# Altium schematic symbol library Blinkinlabs.SchLib: 259 symbols (part 1 of 3)
Pins are listed as number, name and electrical type; pins without a type are passive.

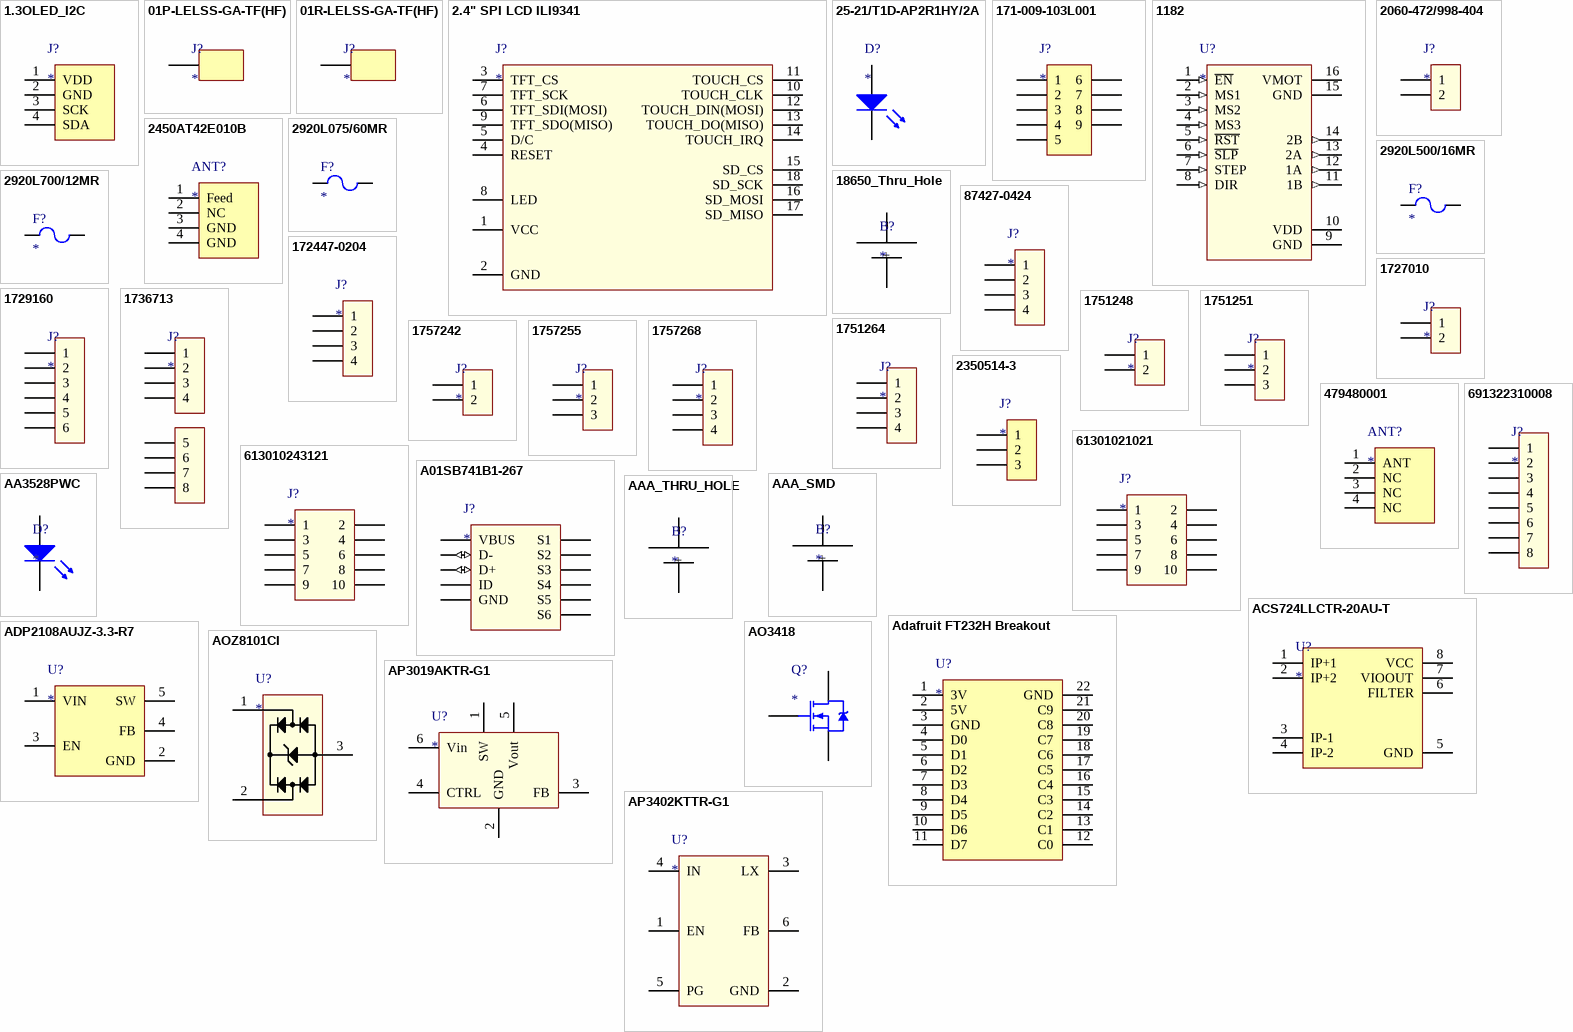
[diagram p0: symbols 1.3OLED_I2C to AP3402KTTR-G1]

## 1.3OLED_I2C
designator J?
Generic single color, 1.3" OLED with I2C connection; Manufacturer: Unknown/Generic; PartNumber: Unknown/Generic
pins: 1 VDD, 2 GND, 3 SCK, 4 SDA

## 01P-LELSS-GA-TF(HF)
designator J?
LEL CONNECTOR For LED Lamp/Board-to-board connectors plug; Manufacturer: JST; PartNumber: 01P-LELSS-GA-TF(HF)
footprint 01P-LELSS-GA-TF(HF) (LEL connector plug)
pins: 1, 2, 3

## 01R-LELSS-GA-TF(HF)
designator J?
LEL CONNECTOR For LED Lamp/Board-to-board connectors, receptacle; Manufacturer: JST; PartNumber: 01P-LELSS-GA-TF(HF)
footprint 01R-LELSS-GA-TF(HF) (LEL connector receptacle)
pins: 1, 2, 3

## 2.4" SPI LCD ILI9341
designator J?
Generic 2.4 inch SPI LCD TFT serial module 240x320 with touch ILI9341; Manufacturer: Unknown/Generic; PartNumber: Unknown/Generic
footprint 2.4" SPI LCD ILI9341 (Generic 2.4 inch SPI LCD TFT serial module 240x320 with touch ILI9341)
pins: 1 VCC, 2 GND, 3 TFT_CS, 4 RESET, 5 D/C, 6 TFT_SDI(MOSI), 7 TFT_SCK, 8 LED, 9 TFT_SDO(MISO), 10 TOUCH_CLK, 11 TOUCH_CS, 12 TOUCH_DIN(MOSI), 13 TOUCH_DO(MISO), 14 TOUCH_IRQ, 15 SD_CS, 16 SD_MOSI, 17 SD_MISO, 18 SD_SCK

## 25-21/T1D-AP2R1HY/2A
designator D?
Reverse mount LED in 1206 package, white; Manufacturer: Everlight; PartNumber: 25-21/T1D-AP2R1HY/2A
footprint 25-21/T1D-AP2R1HY/2A (Reverse mount LED in 1206 package, white)
pins: 1, 2

## 171-009-103L001
designator J?
CONN D-SUB PLUG 9POS PNL MNT, side mount DSUB connector; Manufacturer: NorComp Inc.; PartNumber: 171-009-103L001; Digikey PartNumber: 209ME-ND
footprint 171-009-103L001 (CONN D-SUB PLUG 9POS PNL MNT)
pins: 1, 2, 3, 4, 5, 6, 7, 8, 9

## 1182
designator U?
A4988 Stepper Motor Driver Carrier; Manufacturer: Pololu; PartNumber: 1182
footprint A4988_Carrier (A4988 Stepper Motor Driver Carrier)
pins: 1 ~{EN} (in) "Enable", 2 MS1 (in) "Micostep mode select 1", 3 MS2 (in) "Micostep mode select 2", 4 MS3 (in) "Micostep mode select 3", 5 ~{RST} (in) "Reset", 6 ~{SLP} (in) "Sleep", 7 STEP (in) "Step input", 8 DIR (in) "Direction", 9 GND (power) "Ground", 10 VDD (power) "Logic voltage", 11 1B (out) "Coil B output 1", 12 1A (out) "Coil A output 1", 13 2A (out) "Coil A output 2", 14 2B (out) "Coil B output 2", 15 GND (power) "Ground", 16 VMOT (power) "Motor voltage"

## 2060-472/998-404
designator J?
SMD PCB terminal block; Push-button; 0.75 mm²; Pin spacing 4 mm; 2-pole; / Push-in CAGE CLAMP®; in tape-and-reel packaging; Manufacturer: Wago; PartNumber: 2060-472_998-404; ComponentLink2Description: Datasheet; ComponentLink2URL: Wago_2060-472_998-404.pdf
footprint 2060-472/998-404 (SMD PCB terminal block; Push-button; 0.75 mm²; Pin spacing 4 mm; 2-pole;   Push-in CAGE CLAMP®; in tape-and-reel packaging)
pins: 1, 2, 3, 4

## 2450AT42E010B
designator ANT?
2.4 GHz SMD, Above Metal, Low Profile Mini Chip Antenna; Manufacturer: Johanson Technology Inc.; PartNumber: 2450AT42E010B; Digikey PartNumber: 712-1624-1-ND; Parameter 4: *
footprint 2450AT42E010B
pins: 1 Feed, 2 NC, 3 GND, 4 GND

## 2920L075/60MR
designator F?
Polymeric PTC Resettable Fuse 60V 750 mA Ih Surface Mount 2920 (7351 Metric), Concave; Manufacturer: Littelfuse; PartNumber: 2920L075/60MR; Digkey PartNumber: F5633CT-ND; Mouser PartNumber: 576-2920L075/60MR
footprint littelfuse_2920
pins: 1, 2

## 2920L500/16MR
designator F?
PTC reset fuse, 16V 5A, 2920; Manufacturer: Littelfuse; PartNumber: 2920L500/16MR
footprint littelfuse_2920
pins: 1, 2

## 2920L700/12MR
designator F?
PTC reset fuse, 12V 7A, 2920; Manufacturer: Littelfuse; PartNumber: 2920L700/12MR
footprint littelfuse_2920
pins: 1, 2

## 18650_Thru_Hole
designator B?
18650 battery holder, thru-hole; Manufacturer: Unknown/Generic; PartNumber: Unknown/Generic
footprint 18650_thru_hole
pins: 1       + (power), 2       – (power)

## 87427-0424
designator J?
Molex Mini-Fit Jr.™ Header, 4.20mm Pitch, Right Angle, Nylon, without Mounting Flange, 4 Circuits, Tin (Sn) over Nickel (Ni) Plating, Lead-Free, Tube Packaging; PartNumber: 87427-0424; Manufacturer: Molex
footprint 87427-0424 (Molex Mini-Fit Jr.™ Header, 4.20mm Pitch, Right Angle, Nylon, without Mounting Flange, 4 Circuits, Tin (Sn) over Nickel (Ni) Plating, Lead-Free, Tube Packaging)
pins: 1, 2, 3, 4

## 172447-0204
designator J?
Mini-Fit Jr.™ Header, Dual Row, Vertical, without Snap-in Plastic Peg PCB Lock, 4 Circuits, PA Polyamide Nylon 6/6 94V-2, Tin (Sn) Plating, Glow Wire Capable; Manufacturer: Molex; PartNumber: 172447-0204
footprint 172447-0204 (Molex Mini-Fit Jr.™ Vertical Header, 4.20mm Pitch, Dual Row, 4 Circuits, without Snap-in Plastic Peg PCB Lock, Tin, Natural)
pins: 1, 2, 3, 4

## 1727010
designator J?
PCB terminal block, nominal current: 13.5 A, pitch: 3.81 mm, number of positions: 2, connection method: Screw connection with tension sleeve, mounting: Wave soldering, conductor/PCB connection direction: 0 °, color: green; Manufacturer: Phoenix Contact; PartNumber: 1727010; ComponentLink2Description: Datasheet; ComponentLink2URL: 1757268_06_en_00.pdf
footprint 1727010 (PCB terminal block - MKDS 1/ 2-3,81 - 1727010)
pins: 1, 2

## 1729160
designator J?
TERM BLK 6P SIDE ENT 5.08MM PCB; PartNumber: 1729160; Manufacturer: Phoenix Contact; Digikey PartNumber: 277-1251-ND
footprint 1729160 (TERM BLK 6P SIDE ENT 5.08MM PCB)
pins: 1, 2, 3, 4, 5, 6

## 1736713
designator J?
TERM BLOCK HDR 8POS 90DEG 5.08MM; Manufacturer: Phoenix Contact; PartNumber: 1736713; ComponentLink2Description: Datasheet; ComponentLink2URL: 1757268_06_en_00.pdf
footprint 1736713 (TERM BLOCK HDR 8POS 90DEG 5.08MM)
pins: 1, 2, 3, 4, 5, 6, 7, 8

## 1751248
designator J?
TERM BLK 2POS SIDE ENT 3.5MM PCB; Manufacturer: Phoenix Contact; PartNumber: 1751248
footprint 1751248 (TERM BLK 2POS SIDE ENT 3.5MM PCB)
pins: 1, 2

## 1751251
designator J?
TERM BLK 3POS SIDE ENT 3.5MM PCB; Manufacturer: Phoenix Contact; PartNumber: 1751251
footprint 1751251 (TERM BLK 3POS SIDE ENT 3.5MM PCB)
pins: 1, 2, 3

## 1751264
designator J?
TERM BLK 4POS SIDE ENT 3.5MM PCB; Manufacturer: Phoenix Contact; PartNumber: 1751264
footprint 1751264 (PCB terminal block - MKDS 1/ 4-3,5 - 1751264)
pins: 1, 2, 3, 4

## 1757242
designator J?
TERM BLOCK HDR 2POS 90DEG 5.08MM; Manufacturer: Phoenix Contact; PartNumber: 1757268; ComponentLink2Description: Datasheet; ComponentLink2URL: 1757268_06_en_00.pdf
footprint 1757242 (TERM BLOCK HDR 2POS 90DEG 5.08MM)
pins: 1, 2

## 1757255
designator J?
TERM BLOCK HDR 3POS 90DEG 5.08MM; Manufacturer: Phoenix Contact; PartNumber: 1757268; ComponentLink2Description: Datasheet; ComponentLink2URL: 1757268_06_en_00.pdf
footprint 1757255 (TERM BLOCK HDR 3POS 90DEG 5.08MM)
pins: 1, 2, 3

## 1757268
designator J?
TERM BLOCK HDR 4POS 90DEG 5.08MM; Manufacturer: Phoenix Contact; PartNumber: 1757268; ComponentLink2Description: Datasheet; ComponentLink2URL: 1757268_06_en_00.pdf
footprint 1757268 (TERM BLOCK HDR 4POS 90DEG 5.08MM)
pins: 1, 2, 3, 4

## 2350514-3
designator J?
3 Position Terminal Block Header, Male Pins, Shrouded (4 Side) 0.138" (3.50mm) 90°, Right Angle  Through Hole; Manufacturer: TE Connectivity AMP Connectors; PartNumber: 2350514-3; DigiKey PartNumber: A145379-ND
footprint 2350514-3 (3POS TB HDR 90 DEG PITCH 3.5 & T)
pins: 1, 2, 3

## 479480001
designator ANT?
Antennas 2.4G SMD ANTENNA ON GROUND 50 OHMS; Manufacturer: Molex; PartNumber: 479480001
footprint 479480001 (Antennas 2.4G SMD ANTENNA ON GROUND 50 OHMS)
pins: 1 ANT, 2 NC, 3 NC, 4 NC

## 61301021021
designator J?
10 Positions Header Connector 0.100" (2.54mm) Through Hole, Right Angle Gold; Manufacturer: Wurth Electronics Inc; PartNumber: 61301021021; ComponentLink2Description: Datasheet; ComponentLink2URL: 6130xx21021.pdf
footprint 61301021021 (2.54MM ANGLED DUAL PIN HEADER)
pins: 1, 2, 3, 4, 5, 6, 7, 8, 9, 10

## 613010243121
designator J?
10 Position Header Connector 0.100" (2.54mm) Through Hole, Right Angle Gold; Manufacturer: Wurth Electronics Inc; PartNumber: 613010243121; ComponentLink2Description: Datasheet; ComponentLink2URL: 6130xx243121.pdf
footprint 613010243121 (2.54MM ANGLED DUAL SOCKET HEADER)
pins: 1, 2, 3, 4, 5, 6, 7, 8, 9, 10

## 691322310008
designator J?
8 Position Terminal Block Header, Male Pins, Shrouded (4 Side) 0.150" (3.81mm) 90°, Right Angle Through Hole; Manufacturer: Wurth Electronics Inc; PartNumber: 691322310008
footprint 691322310008 (8 Position Terminal Block Header, Male Pins, Shrouded (4 Side) 0.150" (3.81mm) 90°, Right Angle Through Hole)
pins: 1, 2, 3, 4, 5, 6, 7, 8

## A01SB741B1-267
designator J?
Micro USB B type 四脚全插牛角; PartNumber: Unknown/Generic; Manufacturer: Unknown/Generic
footprint A01SB741B1-267 (micro usb B type)
pins: D+ (io), D- (io), GND (power), ID, S1, S2, S3, S4, S5, S6, VBUS (power)

## AA3528PWC
designator D?
3.5x2.8mm SURFACE MOUNT LED LAMP, WHITE (InGaN); Manufacturer: Kingbright; PartNumber: AA3528PWC
footprint AA3528PWC (3.5x2.8mm SURFACE MOUNT LED LAMP)
footprint AA3528PWC -HD (3.5x2.8mm SURFACE MOUNT LED LAMP)
pins: 1, 2

## AAA_SMD
designator B?
AAA battery holder, surface mount.; Manufacturer: Unknown/Generic; PartNumber: Unknown/Generic
footprint AAA_SMD
pins: 1       + (power), 2       – (power)

## AAA_THRU_HOLE
designator B?
AAA battery holder, thru hole; Manufacturer: Unknown/Generic; PartNumber: Unknown/Generic
footprint AAA_SMD_THRU_HOLE
pins: 1       + (power), 2       – (power)

## ACS724LLCTR-20AU-T
designator U?
Automotive-Grade, Galvanically Isolated Current Sensor IC with Common-Mode Field Rejection in a Small-Footprint SOIC8 Package; Manufacturer: Allegro; PartNumber: ACS724LLCTR-20AU-T; Digikey PartNumber: 620-1721-1-ND
footprint SOP127P600X175-8N-4 (SOP, 8-Leads, Body 4.90x3.90mm, Pitch 1.27mm, IPC Medium Density)
pins: 1 IP+1, 2 IP+2, 3 IP-1, 4 IP-2, 5 GND, 6 FILTER, 7 VIOOUT, 8 VCC

## Adafruit FT232H Breakout
designator U?
Adafruit FT232H Breakout - General Purpose USB to GPIO, SPI, I2C - USB C & Stemma QT; PartNumber: 2264; Manufacturer: Adafruit
pins: 1 3V, 2 5V, 3 GND, 4 D0, 5 D1, 6 D2, 7 D3, 8 D4, 9 D5, 10 D6, 11 D7, 12 C0, 13 C1, 14 C2, 15 C3, 16 C4, 17 C5, 18 C6, 19 C7, 20 C8, 21 C9, 22 GND

## ADP2108AUJZ-3.3-R7
designator U?
Compact, 600 mA, 3 MHz, Step-Down DC-to-DC Converter, 3.3V; PartNumber: ADP2108AUJZ-3.3-R7; Manufacturer: *; DigiKey PartNumber: ADP2108AUJZ-3.3-R7CT-ND; LCSC PartNumber: C143875
footprint SOT95P280X100-5N (SOT23, 5-Leads, Body 2.90x2.80mm, Pitch 0.95mm, IPC Medium Density)
pins: 1 VIN, 2 GND, 3 EN, 4 FB, 5 SW

## AO3418
designator Q?
30V N-Channel MOSFET; Manufacturer: Alpha & Omega; PartNumber: AO3418; ComponentLink2Description: Datasheet; ComponentLink2URL: ao3418.pdf
footprint SOT95P280X125-3N (SOT23, 3-Leads, Body 2.95x2.80mm, Pitch 0.95mm, IPC Medium Density)
pins: 1 GATE, 2 SOURCE, 3 DRAIN

## AOZ8101CI
designator U?
Ultra-Low Capacitance TVS Diode Array; Manufacturer: Alpha & Omega; PartNumber: AOZ8101; ComponentLink2Description: Datasheet; ComponentLink2URL: AOZ8101.pdf
footprint SOT95P280X125-3N (SOT23, 3-Leads, Body 2.95x2.80mm, Pitch 0.95mm, IPC Medium Density)
pins: 1, 2, 3

## AP3019AKTR-G1
designator U?
WHITE  LED  STEP-UP  CONVERTER; Manufacturer: BCD  Semiconductor  Manufacturing  Limited; PartNumber: AP3019AKTR-G1
footprint SOT95P280X145-6N-2 (Footprint not found)
pins: 1 SW, 2 GND, 3 FB, 4 CTRL, 5 Vout, 6 Vin

## AP3402KTTR-G1
designator U?
1.0MHZ, 2A STEP-DOWN DC-DC BUCK CONVERTER; Manufacturer: Diodes; PartNumber: AP3402KTTR-G1; LCSC PartNumber: C155517
footprint SOT95P280X100-6N (SOT23, 6-Leads, Body 2.90x2.80mm, Pitch 0.95mm, IPC Medium Density)
pins: 1 EN, 2 GND, 3 LX, 4 IN, 5 PG, 6 FB

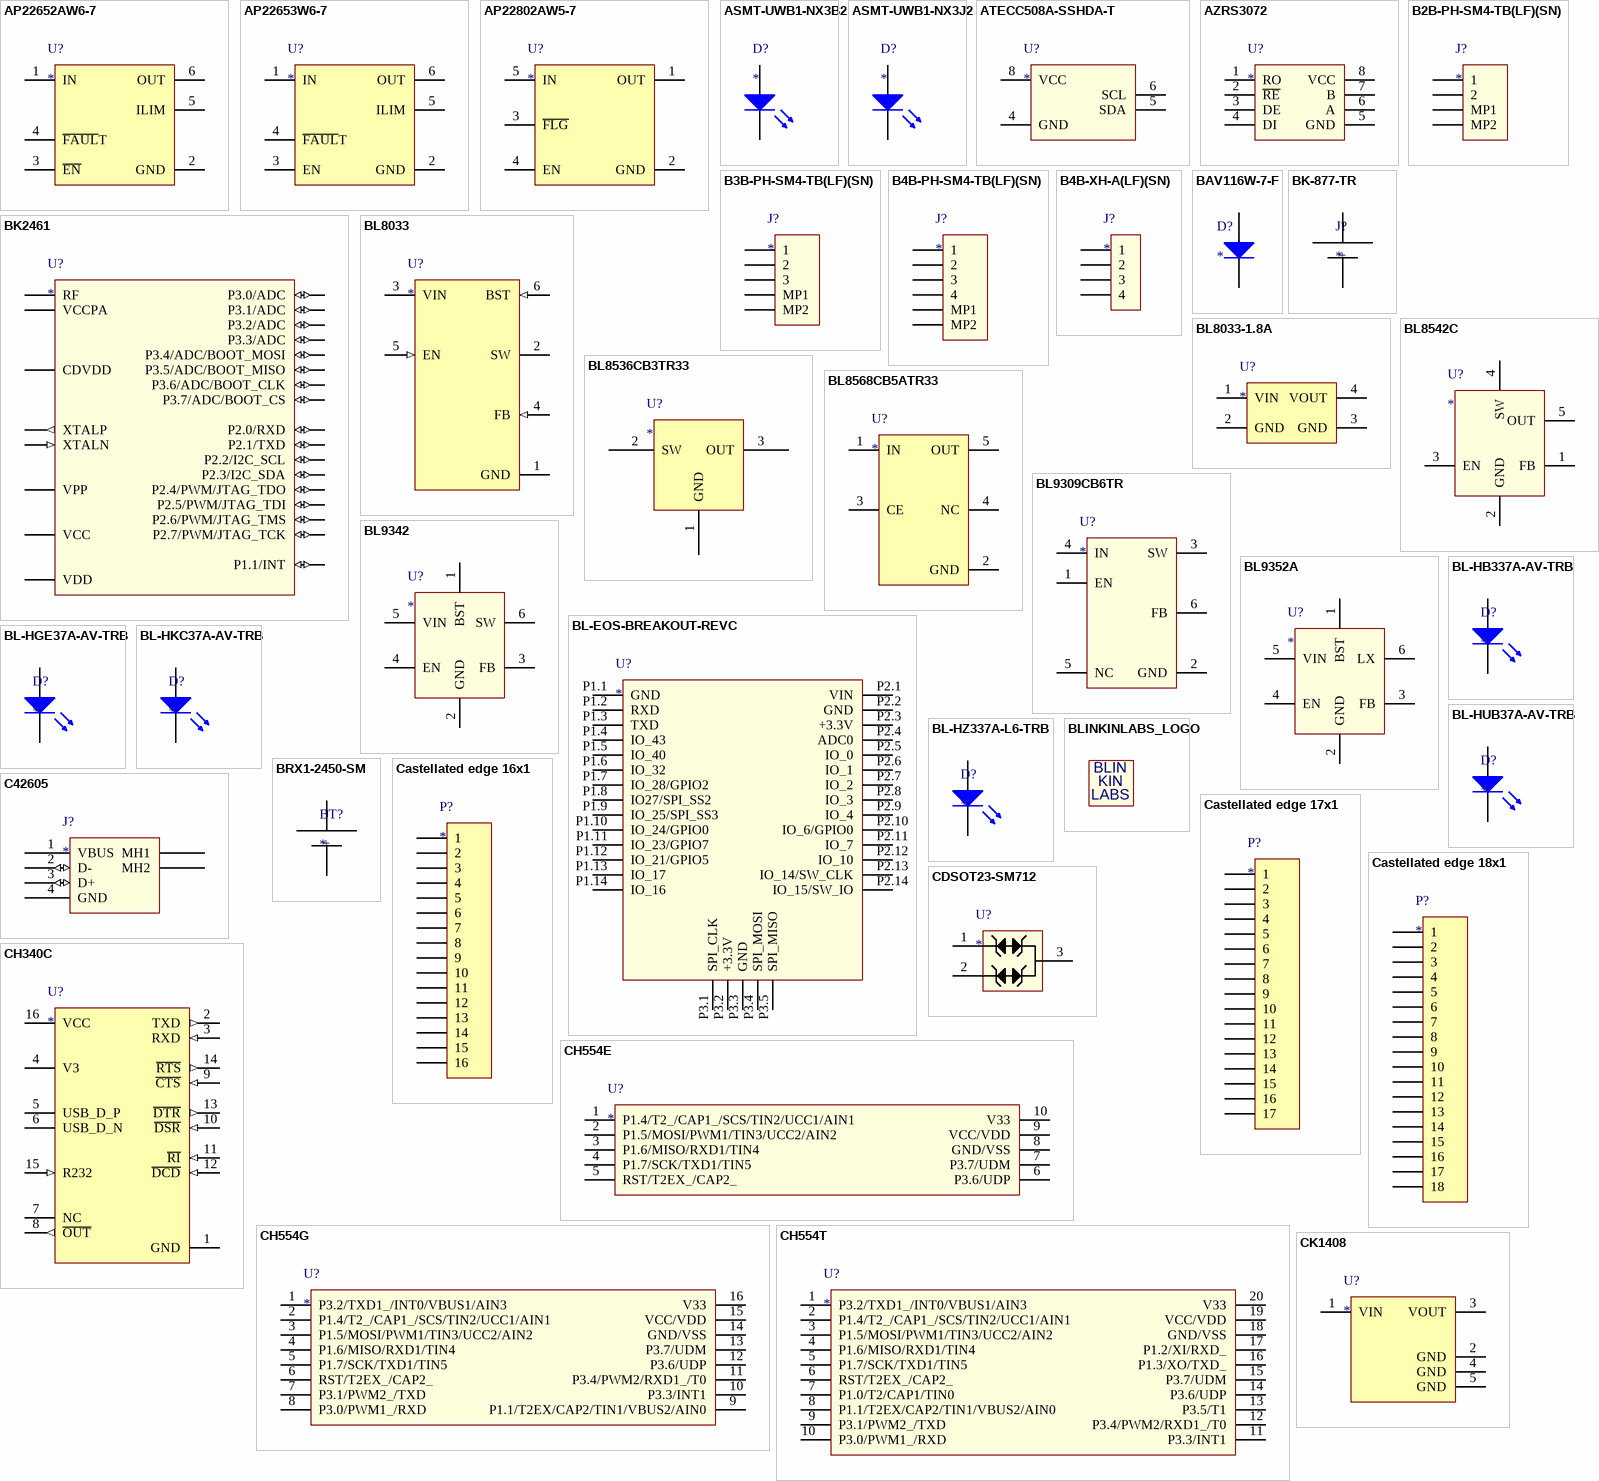
[diagram p1: symbols AP22652AW6-7 to CK1408]

## AP22652AW6-7
designator U?
LOAD SWITCH,SOT26,T&R,3K; Manufacturer: Diodes Incorporated; PartNumber: AP22652AW6-7; Digikey PartNumber: 31-AP22652AW6-7TR-ND
footprint SOT95P280X145-6N-5 (SOT23, 6-Leads, Body 2.90x2.80mm, Pitch 0.95mm, IPC Medium Density)
pins: 1 IN, 2 GND, 3 ~{EN}, 4 ~{FAUL}T, 5 ILIM, 6 OUT

## AP22653W6-7
designator U?
LOAD SWITCH,SOT26,T&R,3K; Manufacturer: Diodes Incorporated; PartNumber: AP22653W6-7; Digikey PartNumber: 31-AP22653W6-7TR-ND
footprint SOT95P280X145-6N-5 (SOT23, 6-Leads, Body 2.90x2.80mm, Pitch 0.95mm, IPC Medium Density)
pins: 1 IN, 2 GND, 3 EN, 4 ~{FAUL}T, 5 ILIM, 6 OUT

## AP22802AW5-7
designator U?
IC PWR SWITCH P-CHAN 1:1 SOT25; Manufacturer: Diodes Incorporated; PartNumber: AP22802AW5-7; Digikey PartNumber: AP22802AW5-7DITR-ND
pins: 1 OUT, 2 GND, 3 ~{FLG}, 4 EN, 5 IN

## ASMT-UWB1-NX3B2
designator D?
Standard LEDs - SMD White, 6500K 2300mcd, 20mA; Manufacturer: Broadcom/Avago; PartNumber: ASMT-UWB1-NX3B2; Mouser PartNumber: 630-ASMT-UWB1-NX3B2
footprint ASMT-UWB1-Nxxxx
pins: 1, 2

## ASMT-UWB1-NX3J2
designator D?
Standard LEDs - SMD White, 2700K 2300mcd, 20mA; Manufacturer: Broadcom/Avago; PartNumber: ASMT-UWB1-NX3J2; Mouser PartNumber: 630-ASMT-UWB1-NX3J2
footprint ASMT-UWB1-Nxxxx
pins: 1, 2

## ATECC508A-SSHDA-T
designator U?
Cryptographic Co-processor with Secure Hardware-Based Key Storage; PartNumber: ATECC508A-SSHDA-T; Manufacturer: Microchip
footprint SOIC127P600X175-8N (SOIC, 8-Leads, Body 4.90x3.90mm, Pitch 1.27mm, IPC Medium Density)
pins: 4 GND, 5 SDA, 6 SCL, 8 VCC

## AZRS3072
designator U?
ESD-Protected, Slew-Rate-Limited, True Fail-Safe 3.3V RS485 Transceiver IC; Manufacturer: Amazing Microelectronic Corp.; PartNumber: AZRS3072
footprint SOIC127P600X175-8N (SOIC, 8-Leads, Body 4.90x3.90mm, Pitch 1.27mm, IPC Medium Density)
pins: 1 RO, 2 ~{RE}, 3 DE, 4 DI, 5 GND, 6 A, 7 B, 8 VCC

## B2B-PH-SM4-TB(LF)(SN)
designator J?
CONN HEADER SMD R/A 2POS 2MM; Manufacturer: JST; PartNumber: B2B-PH-SM4-TB(LF)(SN)
footprint B2B-PH-SM4-TB(LF)(SN) (CONN HEADER SMD 2POS 2MM)
pins: 1, 2, MP1, MP2

## B3B-PH-SM4-TB(LF)(SN)
designator J?
CONN HEADER SMD R/A 3POS 2MM; Manufacturer: JST; PartNumber: B3B-PH-SM4-TB(LF)(SN)
footprint B3B-PH-SM4-TB(LF)(SN) (CONN HEADER SMD 3POS 2MM)
pins: 1, 2, 3, MP1, MP2

## B4B-PH-SM4-TB(LF)(SN)
designator J?
CONN HEADER SMD R/A 3POS 2MM; Manufacturer: JST; PartNumber: B4B-PH-SM4-TB(LF)(SN)
footprint B4B-PH-SM4-TB(LF)(SN) (CONN HEADER SMD 4POS 2MM)
pins: 1, 2, 3, 4, MP1, MP2

## B4B-XH-A(LF)(SN)
designator J?
CONN HEADER XH TOP 4POS 2.5MM; Manufacturer: JST Manufacturing; PartNumber: B4B-XH-A(LF)(SN)
footprint B4B-XH-A(LF)(SN) (CONN HEADER XH TOP 4POS 2.5MM)
pins: 1, 2, 3, 4

## BAV116W-7-F
designator D?
Surface Mount Low Leakage Diode, Vr=130V, If=215mA, Vf=1.25V @ 150mA, Ir=5nA@25C; Manufacturer: Diodes Incorporated; PartNumber: BAV116W-7-F
footprint SOD123 (Hand drawn)
pins: 1 K, 2 A

## BK2461
designator U?
FLIP51 MCU+RF; Manufacturer: Beken; PartNumber: BK2461
footprint QFN50P400X400X90_HS-25N (QFN, 24-Leads, Body 4.00x4.00mm, Pitch 0.50mm, Thermal Pad 2.70x2.70mm, IPC Medium Density)
pins: 1 VCC (power) "3v supply", 2 RF "Antenna input/output", 3 VCCPA (power) "PA power output, connected with decoupling CAP", 4 P3.7/ADC/BOOT_CS (io) "General I/O，ADC input", 5 P3.6/ADC/BOOT_CLK (io) "General I/O，ADC input", 6 P3.5/ADC/BOOT_MISO (io) "General I/O，ADC input", 7 VPP (power) "Mode select and 6.5V power supply for OTP burning, or P12 output(PWM)", 8 P3.4/ADC/BOOT_MOSI (io) "General I/O，ADC input", 9 P3.3/ADC (io) "General I/O，ADC input", 10 P3.2/ADC (io) "General I/O，ADC input", 11 P1.1/INT (io) "General I/O， external interrupt", 12 P3.1/ADC (io) "General I/O，ADC input", 13 P2.0/RXD (io) "General I/O，or input for UART", 14 P3.0/ADC (io) "General I/O，ADC input", 15 P2.1/TXD (io) "General I/O，or output for UART", 16 P2.2/I2C_SCL (io) "General I/O，or I2C SCL", 17 P2.3/I2C_SDA (io) "General I/O，or I2C SDA", 18 P2.4/PWM/JTAG_TDO (io) "General I/O，or PWM, or JTAG", 19 P2.5/PWM/JTAG_TDI (io) "General I/O，or PWM, or JTAG", 20 P2.7/PWM/JTAG_TCK (io) "General I/O，or PWM, or JTAG", 21 P2.6/PWM/JTAG_TMS (io) "General I/O，or PWM, or JTAG", 22 CDVDD "power output, connected with decoupling CAP", 23 XTALP (out) "Oscillator output", 24 XTALN (in) "Oscillator input", 25 VDD (power)

## BK-877-TR
designator J?
Battery Retainer Coin, 24.5mm 1 Cell SMD (SMT) Tab; Manufacturer: MPD; PartNumber: BK-877-TR; Digikey PartNumber: BK-877-TR
footprint BKK-877 (BATT RETAIN COIN 24.5MM 1CEL SMD)
pins: 1 + (power), 2       + (power), 3       – (power)

## BL8033
designator U?
16V 3A SOT-23-6 DC-DC Converters RoHS; PartNumber: BL8033CB6TR; Manufacturer: Belling; LCSC PartNumber: C160717
footprint SOT95P290X130-6N (SOT23, 6-Leads, Body 2.90x2.90mm, Pitch 0.95mm, IPC Medium Density)
pins: 1 GND (power), 2 SW (power), 3 VIN (power), 4 FB (in), 5 EN (in), 6 BST (in)

## BL8033-1.8A
designator U?
DC-DC converter module; Manufacturer: Blinkinlabs; PartNumber: BL8033-1.8A
footprint BL8033-1.8A
pins: 1 VIN (power), 2 GND, 3 GND, 4 VOUT (power)

## BL8536CB3TR33
designator U?
0.9V Startup, 1MHz, 300mA Iout, Low Iq, Synchronous Boost Converte; Manufacturer: Shanghai Belling; PartNumber: BL8536; LCSC PartNumber: C97793
footprint SOT95P280X140-3N (SOT23, 3-Leads, Body 2.90x2.80mm, Pitch 0.95mm, IPC Medium Density)
pins: 1 GND, 2 SW, 3 OUT

## BL8542C
designator U?
0.85V startup, 1MHz, 300mA Iout,  Synchronous Boost Converter (adjustable output); Manufacturer: Shanghai Belling; PartNumber: BL8542CCB5TR; LCSC PartNumber: C313522
footprint SOT95P280X130-5N (SOT23, 5-Leads, Body 2.90x2.80mm, Pitch 0.95mm, IPC Medium Density)
pins: 1 FB, 2 GND, 3 EN, 4 SW, 5 OUT

## BL8568CB5ATR33
designator U?
500mA High PSRR, Linear Regulator, w. Output Discharge; Manufacturer: Shanghai Belling; PartNumber: BL8568CB5ATR33; LCSC PartNumber: C243122
footprint SOT95P280X130-5N-2 (SOT23, 5-Leads, Body 2.90x2.80mm, Pitch 0.95mm, IPC Medium Density)
pins: 1 IN, 2 GND, 3 CE, 4 NC, 5 OUT

## BL9309CB6TR
designator U?
5.5V, 2.0A, 1.3MHz Synchronous Buck Converter; Manufacturer: Shanghai Belling; PartNumber: BL9309CB6TR; LCSC PartNumber: C691899
footprint SOT95P280X125-6N-2 (SOT23, 6-Leads, Body 2.92x2.80mm, Pitch 0.95mm, IPC Medium Density)
pins: 1 EN, 2 GND, 3 SW, 4 IN, 5 NC, 6 FB

## BL9342
designator U?
40V 600mA SOT-23-6 DC-DC Converters; Manufacturer: Shanghai Belling; PartNumber: BL9342; LCSC PartNumber: C93176
footprint SOT95P280X125-6N (SOT23, 6-Leads, Body 2.92x2.80mm, Pitch 0.95mm, IPC Medium Density)
pins: 1 BST, 2 GND, 3 FB, 4 EN, 5 VIN, 6 SW

## BL9352A
designator U?
45V, 1.6MHz, 600mA Step-Down Converter; Manufacturer: Shanghai Belling; PartNumber: BL9352A; ComponentLink2Description: Datasheet; ComponentLink2URL: BL9352A_V1.1_en.pdf; LCSC PartNumber: C193985
footprint SOT95P280X125-6N (SOT23, 6-Leads, Body 2.92x2.80mm, Pitch 0.95mm, IPC Medium Density)
pins: 1 BST "Bootstrap pin for top Switch. In Typ. application, a 0.1uF or larger capacitor should be connected between this pin and the LX pin to supply current to the top Switch gate and top Switch driver.", 2 GND "Analog Ground", 3 FB "Output feedback pin. In Typ. application, FB senses the output voltage and is regulated by the control loop to 800mV. Connect a resistive divider at FB.", 4 EN "Drive EN pin high to turn on the regulator and low to turn off the regulator", 5 VIN "Input voltage pin, In Typ. application, VIN supplies power to the IC. Connect a 4.5V to 45V supply to VIN and bypass VIN to GND with a suitably large capacitor to eliminate noise on the input to the IC.", 6 LX "LX is the Switching node that supplies power to the output Connect the output LC filter from LX to the output load."

## BL-EOS-BREAKOUT-REVC
designator U?
Manufacturer: Blinkinlabs; PartNumber: QL-EOS-S3-Breakout
footprint BL-EOS-BREAKOUT-REVC
pins: P1.1 GND, P1.2 RXD, P1.3 TXD, P1.4 IO_43, P1.5 IO_40, P1.6 IO_32, P1.7 IO_28/GPIO2, P1.8 IO27/SPI_SS2, P1.9 IO_25/SPI_SS3, P1.10 IO_24/GPIO0, P1.11 IO_23/GPIO7, P1.12 IO_21/GPIO5, P1.13 IO_17, P1.14 IO_16, P2.1 VIN, P2.2 GND, P2.3 +3.3V, P2.4 ADC0, P2.5 IO_0, P2.6 IO_1, P2.7 IO_2, P2.8 IO_3, P2.9 IO_4, P2.10 IO_6/GPIO0, P2.11 IO_7, P2.12 IO_10, P2.13 IO_14/SW_CLK, P2.14 IO_15/SW_IO, P3.1 SPI_CLK, P3.2 +3.3V, P3.3 GND, P3.4 SPI_MOSI, P3.5 SPI_MISO

## BL-HB337A-AV-TRB
designator D?
LED, 0402, Blue, 20mcd@5mA, 465~470nm; Manufacturer: BrtLed(佰鸿); PartNumber: BL-HB337A-AV-TRB; LCSC PartNumber: C165977
footprint BL-Hxx37A-AV-TRB (0402 LED, generic)
pins: 1, 2

## BL-HGE37A-AV-TRB
designator D?
LED, 0402, Super Yellow Green, 35mcd@20mA, 566~576nm; Manufacturer: BrtLed(佰鸿); PartNumber: BL-HGE37A-AV-TRB; LCSC PartNumber: C165979
footprint BL-Hxx37A-AV-TRB (0402 LED, generic)
pins: 1, 2

## BL-HKC37A-AV-TRB
designator D?
LED, 0402, Yellow, 120mcd@20mA, 584~594nm; Manufacturer: BrtLed(佰鸿); PartNumber: BL-HKC37A-AV-TRB; LCSC PartNumber: C165978
footprint BL-Hxx37A-AV-TRB (0402 LED, generic)
pins: 1, 2

## BL-HUB37A-AV-TRB
designator D?
LED, 0402, Super Red, 50mcd@20mA, 627~637nm; Manufacturer: BrtLed(佰鸿); PartNumber: BL-HUB37A-AV-TRB; LCSC PartNumber: C165980
footprint BL-Hxx37A-AV-TRB (0402 LED, generic)
pins: 1, 2

## BL-HZ337A-L6-TRB
designator D?
LED, 0402, White, 80mcd@5mA; Manufacturer: BrtLed(佰鸿); PartNumber: BL-HZ337A-L6-TRB; LCSC PartNumber: C189305
footprint BL-Hxx37A-AV-TRB (0402 LED, generic)
pins: 1, 2

## BLINKINLABS_LOGO
designator L?  (value not drawn)  (no BOM)
Square logo
footprint BLINKINLABS_LOGO (Square blinkinlabs logo)
footprint BLINKINLABS_LOGO_SMALL (Small blinkinlabs logo)
text: BLIN; KIN; LABS

## BRX1-2450-SM
designator BT?
BATTERY HOLDER COIN CELL; Manufacturer: Memory Protection Devices, Inc; PartNumber: BRX1-2450-SM
footprint BRX1-2450-SM (CR2450 Surface Mount Battery Retainer)
pins: N       – (power), V1       + (power), V2 + (power), V3 + (power)

## C42605
designator J?
USB A connector, SMD, no tabs; Manufacturer: LC (立创); PartNumber: C42605
footprint C42605 (USB-A SMD)
pins: 1 VBUS (power) "USB 5V", 2 D- (io) "USB Data, negative", 3 D+ (io) "USB Data, positive", 4 GND (power) "Ground", 5 MH2 "Mounting Hole", 6 MH1 "Mounting Hole"

## Castellated edge 16x1
designator P?
2.54mm Header with castellated edges, 1x16 pins
footprint 1x16 castellated
pins: 1, 1b 1, 2, 2b 2, 3, 3b 3, 4, 4b 4, 5, 5b 5, 6, 6b 6, 7, 7b 7, 8, 8b 8, 9, 9b 9, 10, 10b 10, 11, 11b 11, 12, 12b 12, 13, 13b 13, 14, 14b 14, 15, 15b 15, 16, 16b 16

## Castellated edge 17x1
designator P?
2.54mm Header with castellated edges, 1x17 pins
footprint 1x17 castellated
pins: 1, 1b 1, 2, 2b 2, 3, 3b 3, 4, 4b 4, 5, 5b 5, 6, 6b 6, 7, 7b 7, 8, 8b 8, 9, 9b 9, 10, 10b 10, 11, 11b 11, 12, 12b 12, 13, 13b 13, 14, 14b 14, 15, 15b 15, 16, 16b 16, 17, 17b 17

## Castellated edge 18x1
designator P?
2.54mm Header with castellated edges, 1x18 pins
footprint 1x18 castellated
pins: 1, 1b 1, 2, 2b 2, 3, 3b 3, 4, 4b 4, 5, 5b 5, 6, 6b 6, 7, 7b 7, 8, 8b 8, 9, 9b 9, 10, 10b 10, 11, 11b 11, 12, 12b 12, 13, 13b 13, 14, 14b 14, 15, 15b 15, 16, 16b 16, 17, 17b 17, 18, 18b 18

## CDSOT23-SM712
designator U?
600 WATT TVS ARRAY - ASYMMETRICAL DATA LINE PROTECTOR; Manufacturer: Bourns; PartNumber: CDSOT23-SM712; ComponentLink2Description: Datasheet; ComponentLink2URL: Bourns CDSOT23-SM712.pdf
footprint SOT95P230X117-3N (SOT23, 3-Leads, Body 2.90x2.30mm, Pitch 0.95mm, IPC Medium Density)
pins: 1, 2, 3

## CH340C
designator U?
USB to serial chip; Manufacturer: WCH; PartNumber: CH340C; LCSC PartNumber: C84681
footprint SOP127P600X175-16N-2 (SOP, 16-Leads, Body 9.90x3.90mm, Pitch 1.27mm, IPC Medium Density)
pins: 1 GND (power), 2 TXD (out), 3 RXD (in), 4 V3 (power), 5 USB_D_P, 6 USB_D_N, 7 NC, 8 ~{OUT} (out), 9 ~{CTS} (in), 10 ~{DSR} (in), 11 ~{RI} (in), 12 ~{DCD} (in), 13 ~{DTR} (out), 14 ~{RTS} (out), 15 R232 (in), 16 VCC (power)

## CH554E
designator U?
8-bit enhanced USB microcontroller; Manufacturer: WCH; PartNumber: CH554E
footprint LC-MSOP-10 (Footprint from SZLCSC example)
pins: 1 P1.4/T2_/CAP1_/SCS/TIN2/UCC1/AIN1, 2 P1.5/MOSI/PWM1/TIN3/UCC2/AIN2, 3 P1.6/MISO/RXD1/TIN4, 4 P1.7/SCK/TXD1/TIN5, 5 RST/T2EX_/CAP2_, 6 P3.6/UDP, 7 P3.7/UDM, 8 GND/VSS (power), 9 VCC/VDD (power), 10 V33 (power)

## CH554G
designator U?
8-bit enhanced USB microcontroller; Manufacturer: WCH; PartNumber: CH554G
footprint SOP127P600X175-16N (SOP, 16-Leads, Body 9.90x3.90mm, Pitch 1.27mm, IPC Medium Density)
pins: 1 P3.2/TXD1_/INT0/VBUS1/AIN3, 2 P1.4/T2_/CAP1_/SCS/TIN2/UCC1/AIN1, 3 P1.5/MOSI/PWM1/TIN3/UCC2/AIN2, 4 P1.6/MISO/RXD1/TIN4, 5 P1.7/SCK/TXD1/TIN5, 6 RST/T2EX_/CAP2_, 7 P3.1/PWM2_/TXD, 8 P3.0/PWM1_/RXD, 9 P1.1/T2EX/CAP2/TIN1/VBUS2/AIN0, 10 P3.3/INT1, 11 P3.4/PWM2/RXD1_/T0, 12 P3.6/UDP, 13 P3.7/UDM, 14 GND/VSS (power), 15 VCC/VDD (power), 16 V33 (power)

## CH554T
designator U?
8-bit enhanced USB microcontroller; Manufacturer: WCH; PartNumber: CH554T
footprint TSOP65P660X110-20N (TSOP, 20-Leads, Body 6.50x4.40mm, Pitch 0.65mm, IPC Medium Density)
pins: 1 P3.2/TXD1_/INT0/VBUS1/AIN3, 2 P1.4/T2_/CAP1_/SCS/TIN2/UCC1/AIN1, 3 P1.5/MOSI/PWM1/TIN3/UCC2/AIN2, 4 P1.6/MISO/RXD1/TIN4, 5 P1.7/SCK/TXD1/TIN5, 6 RST/T2EX_/CAP2_, 7 P1.0/T2/CAP1/TIN0, 8 P1.1/T2EX/CAP2/TIN1/VBUS2/AIN0, 9 P3.1/PWM2_/TXD, 10 P3.0/PWM1_/RXD, 11 P3.3/INT1, 12 P3.4/PWM2/RXD1_/T0, 13 P3.5/T1, 14 P3.6/UDP, 15 P3.7/UDM, 16 P1.3/XO/TXD_, 17 P1.2/XI/RXD_, 18 GND/VSS (power), 19 VCC/VDD (power), 20 V33 (power)

## CK1408
designator U?
Mini high-power DC step-down module, 5V 8A; PartNumber: CK1408; Manufacturer: Wenzhou Chenkai Electronic Technology
footprint CK1408 (5V buck regulator)
pins: 1 VIN (power), 2 GND (power), 3 VOUT (power), 4 GND (power), 5 GND (power)

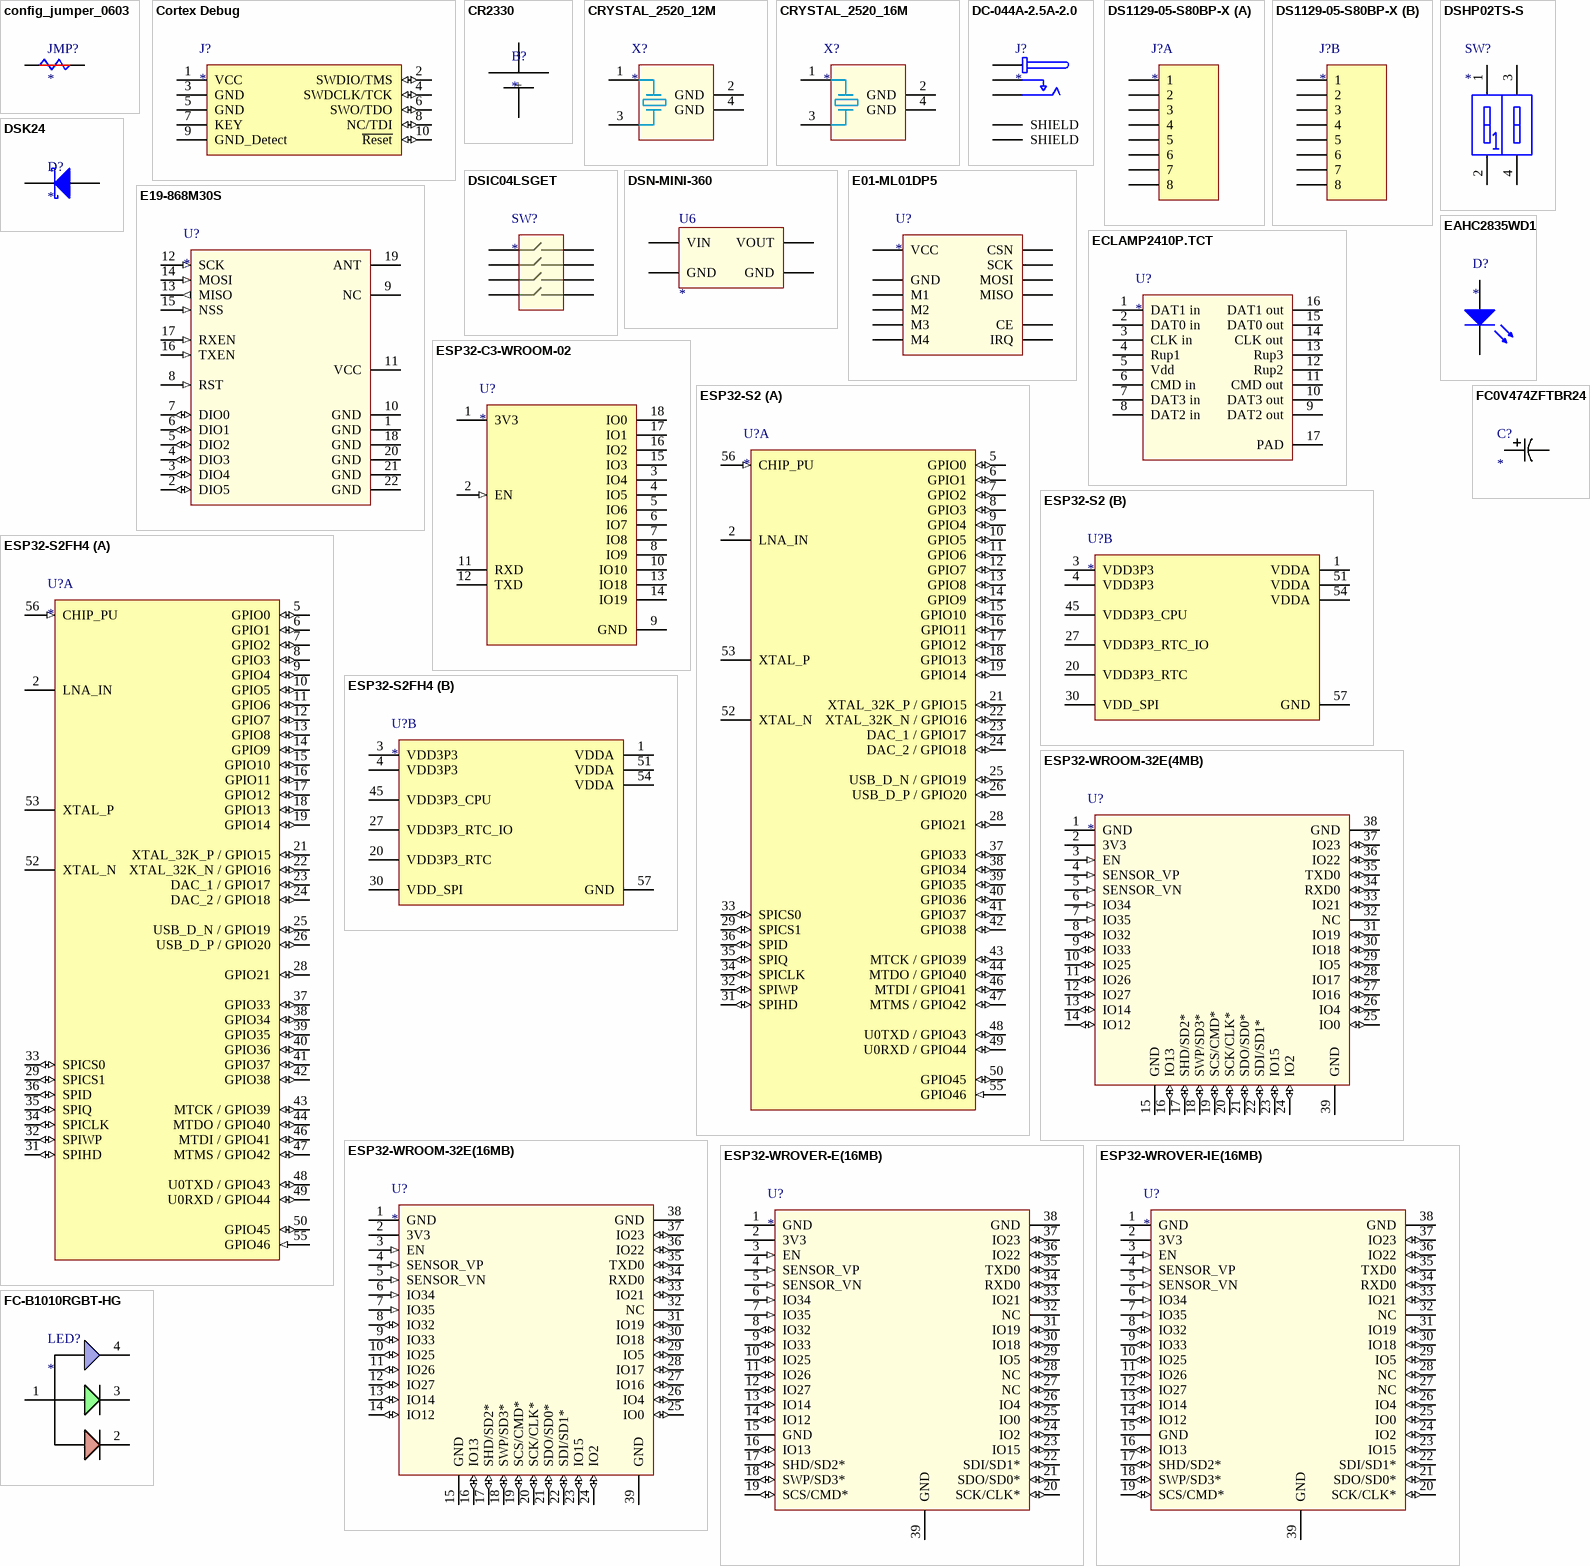
[diagram p2: symbols config_jumper_0603 to FC-B1010RGBT-HG]

## config_jumper_0603
designator JMP?  (no BOM)
Shorted-by-default jumper, with 0603 pad
footprint config_jumper_0603
pins: 1, 2

## Cortex Debug
designator J?
Arm Cortex 10-pin JTAG connector; Manufacturer: Unknown/Generic; PartNumber: unknown/Generic
footprint 1.27mm 2x5 SMD Header
footprint 1.27mm 2x5 SMD Header - no paste
pins: 1 VCC (power), 2 SWDIO/TMS (io), 3 GND (power), 4 SWDCLK/TCK (io), 5 GND (power), 6 SWO/TDO (io), 7 KEY, 8 NC/TDI (io), 9 GND_Detect (power), 10 ~{Reset} (io)

## CR2330
designator B?
CR2330 clip, Blinkinlabs design; Manufacturer: Blinkinlabs; PartNumber: CR2330
footprint CR2330 (Speculative case design for a CR2330)
pins: 1 + (power), 2       + (power), 3       – (power)

## CRYSTAL_2520_12M
designator X?
12 MHz, 8pF, 2520 Crystal resonator; Manufacturer: Kyocera; PartNumber: CX2520DB12000D0FLJC1; ComponentLink2Description: Datasheet; ComponentLink2URL: cx2520db_e.pdf
footprint CRYSTAL_SMD_2520 (Hand Drawn, 4-Leads, Body 2.5x2.0 mm)
pins: 1 XTAL1, 2 GND (power) "Ground", 3 XTAL2, 4 GND (power) "Ground"

## CRYSTAL_2520_16M
designator X?
16 MHz 2520 Crystal resonator; Manufacturer: Kyocera; PartNumber: CX2520DB16000D0GEJCC; ComponentLink2Description: Datasheet; ComponentLink2URL: cx2520db_e.pdf
footprint CRYSTAL_SMD_2520 (Hand Drawn, 4-Leads, Body 2.5x2.0 mm)
pins: 1 XTAL1, 2 GND (power) "Ground", 3 XTAL2, 4 GND (power) "Ground"

## DC-044A-2.5A-2.0
designator J?
DC Jack, 6mm OD, 2mm ID; Manufacturer: XKB; PartNumber: DC-044A-2.5A-2.0
footprint DC-044A-2.5A-2.0 (DC Jack, 6mm OD, 2mm ID)
pins: 1, 2, 3, 4 SHIELD, 5 SHIELD

## DS1129-05-S80BP-X
designator J?
Generic 2x RJ45 jack, without LED and without magnetics. Alternates: / * EDAC Inc. A00-216-262-450 / * Kycon, Inc. GSGX-NS-2-88 / * Connfly   DS1129-05-S80BP-X; Manufacturer: CONNFLY Elec; PartNumber: DS1129-05-S80BP-X; LCSC PartNumber: C86580
footprint DS1129-05-S80BP-X (Generic RJ45 connector without LEDs and without magnetics)
part A pins: A1 1, A2 2, A3 3, A4 4, A5 5, A6 6, A7 7, A8 8
part B pins: B1 1, B2 2, B3 3, B4 4, B5 5, B6 6, B7 7, B8 8

## DSHP02TS-S
designator SW?
SPST Black 平拨，Notch式 1.27mm 2 SMD DIP Switches; Manufacturer: XKB Connectivity; PartNumber: DSHP02TS-S; LCSC PartNumber: C319052
footprint DSHP02TS-S
pins: 1, 2, 3, 4

## DSIC04LSGET
designator SW?
DIP switch / 2.54mm 4-bit; Manufacturer: KE; PartNumber: DSIC04LSGET
footprint DSIC04LSGET (DIP switch / 2.54mm 4-bit)
pins: 1, 2, 3, 4, 5, 6, 7, 8

## DSK24
designator D?
2.0A Surface Mount Shottky Barrier Rectifier; Manufacturer: Formosa MS; PartNumber: DSK24
footprint SODFL370X135-2N (SODFL, 2-Leads, Body 1.80x3.70mm, IPC Medium Density)
pins: 1, 2

## DSN-MINI-360
designator U6
Mini DC Adjustable Power Supply Buck Module Step Down Module; Manufacturer: Unknown/Generic; PartNumber: DSN-MINI-360
footprint DSN-MINI-360 (Mini DC Adjustable Power Supply Buck Module Step Down Module)
pins: IN+ VIN (power), IN- GND (power), OUT+ VOUT (power), OUT- GND (power)

## E01-ML01DP5
designator U?
2.4GHz 22dBm nRF24L01P+PA+LNA Wireless Transmission Module Shield Case; Manufacturer: Chengdu Ebyte Electronic Technology Co; PartNumber: E01-ML01DP5
footprint E01-ML01DP5 (2.4GHz 22dBm nRF24L01P+PA+LNA Wireless Transmission Module Shield Case)
pins: 1 GND, 2 VCC, 3 CE, 4 CSN, 5 SCK, 6 MOSI, 7 MISO, 8 IRQ, 9 M1, 10 M2, 11 M3, 12 M4

## E19-868M30S
designator U?
E19-868M30Sis a small-sized 868MHz LoRaTMSMD wireless module,  based on  the  original  imported  RF  chip  SX1276  from SEMTECH.; Manufacturer: Chengdu Ebyte Electronic Technology Co; PartNumber: E19-868M30S
footprint E19-868M30S (E19-868M30Sis a small-sized 868MHz LoRaTMSMD wireless module,  based on  the  original  imported  RF  chip  SX1276  from SEMTECH.)
pins: 1 GND (power), 2 DIO5 (io), 3 DIO4 (io), 4 DIO3 (io), 5 DIO2 (io), 6 DIO1 (io), 7 DIO0 (io), 8 RST (in), 9 NC, 10 GND (power), 11 VCC (power), 12 SCK (in), 13 MISO (out), 14 MOSI (in), 15 NSS (in), 16 TXEN (in), 17 RXEN (in), 18 GND (power), 19 ANT, 20 GND, 21 GND, 22 GND

## EAHC2835WD1
designator D?
High Power LEDs - White 2835 SMD Wht LED 3000K 90CRI; Manufacturer: Everlight; PartNumber: EAHC2835WD1; Mouser PartNumber: 638-EAHC2835WD1
footprint EAHC2835WD1
pins: 1, 2

## ECLAMP2410P.TCT
designator U?
ESD  Protection Device for T-Flash/MicroSD Interfaces; Manufacturer: Semtech; PartNumber: ECLAMP2410P.TCT
footprint SON50P160X65_HS-17N (SON, 16-Leads, Body 4.00x1.60mm, Pitch 0.50mm, Thermal Pad 3.20x0.33mm, IPC Medium Density)
pins: 1 DAT1 in, 2 DAT0 in, 3 CLK in, 4 Rup1, 5 Vdd, 6 CMD in, 7 DAT3 in, 8 DAT2 in, 9 DAT2 out, 10 DAT3 out, 11 CMD out, 12 Rup2, 13 Rup3, 14 CLK out, 15 DAT0 out, 16 DAT1 out, 17 PAD

## ESP32-C3-WROOM-02
designator U?
SMD MOD 4MB SPI FLSH PCB ANT; Manufacturer: Espressif; PartNumber: ESP32-C3-WROOM-02-N4; Digikey PartNumber: 1965-ESP32-C3-WROOM-02-N4CT-ND
footprint ESP32-C3-WROOM-02
pins: 1 3V3 (power), 2 EN (in), 3 IO4, 4 IO5, 5 IO6, 6 IO7, 7 IO8, 8 IO9, 9 GND (power), 10 IO10, 11 RXD, 12 TXD, 13 IO18, 14 IO19, 15 IO3, 16 IO2, 17 IO1, 18 IO0

## ESP32-S2
designator U?
RF System on a Chip - SoC SMD Wi-Fi IC, ESP32-S2, singal-core MCU; Manufacturer: Espressif; PartNumber: ESP32-S2
footprint QFN40P700X700X90_HS-57N (QFN, 56-Leads, Body 7.00x7.00mm, Pitch 0.40mm, Thermal Pad 4.00x4.00mm, IPC Medium Density)
part A pins: 2 LNA_IN, 5 GPIO0 (io), 6 GPIO1 (io), 7 GPIO2 (io), 8 GPIO3 (io), 9 GPIO4 (io), 10 GPIO5 (io), 11 GPIO6 (io), 12 GPIO7 (io), 13 GPIO8 (io), 14 GPIO9 (io), 15 GPIO10 (io), 16 GPIO11 (io), 17 GPIO12 (io), 18 GPIO13 (io), 19 GPIO14 (io), 21 XTAL_32K_P / GPIO15 (io), 22 XTAL_32K_N / GPIO16 (io), 23 DAC_1 / GPIO17 (io), 24 DAC_2 / GPIO18 (io), 25 USB_D_N / GPIO19 (io), 26 USB_D_P / GPIO20 (io), 28 GPIO21 (io), 29 SPICS1 (io), 31 SPIHD (io), 32 SPIWP (io), 33 SPICS0 (io), 34 SPICLK (io), 35 SPIQ (io), 36 SPID (io), 37 GPIO33 (io), 38 GPIO34 (io), 39 GPIO35 (io), 40 GPIO36 (io), 41 GPIO37 (io), 42 GPIO38 (io), 43 MTCK / GPIO39 (io), 44 MTDO / GPIO40 (io), 46 MTDI / GPIO41 (io), 47 MTMS / GPIO42 (io), 48 U0TXD / GPIO43 (io), 49 U0RXD / GPIO44 (io), 50 GPIO45 (io), 52 XTAL_N, 53 XTAL_P, 55 GPIO46 (in), 56 CHIP_PU (in)
part B pins: 1 VDDA (power), 3 VDD3P3 (power), 4 VDD3P3 (power), 20 VDD3P3_RTC (power), 27 VDD3P3_RTC_IO (power), 30 VDD_SPI (power), 45 VDD3P3_CPU (power), 51 VDDA (power), 54 VDDA (power), 57 GND (power)

## ESP32-S2FH4
designator U?
RF System on a Chip - SoC SMD Wi-Fi IC, ESP32-S2, singal-core MCU w/4MB flash; Manufacturer: Espressif; PartNumber: ESP32-S2FH4
footprint QFN40P700X700X90_HS-57N (QFN, 56-Leads, Body 7.00x7.00mm, Pitch 0.40mm, Thermal Pad 4.00x4.00mm, IPC Medium Density)
part A pins: 2 LNA_IN, 5 GPIO0 (io), 6 GPIO1 (io), 7 GPIO2 (io), 8 GPIO3 (io), 9 GPIO4 (io), 10 GPIO5 (io), 11 GPIO6 (io), 12 GPIO7 (io), 13 GPIO8 (io), 14 GPIO9 (io), 15 GPIO10 (io), 16 GPIO11 (io), 17 GPIO12 (io), 18 GPIO13 (io), 19 GPIO14 (io), 21 XTAL_32K_P / GPIO15 (io), 22 XTAL_32K_N / GPIO16 (io), 23 DAC_1 / GPIO17 (io), 24 DAC_2 / GPIO18 (io), 25 USB_D_N / GPIO19 (io), 26 USB_D_P / GPIO20 (io), 28 GPIO21 (io), 29 SPICS1 (io), 31 SPIHD (io), 32 SPIWP (io), 33 SPICS0 (io), 34 SPICLK (io), 35 SPIQ (io), 36 SPID (io), 37 GPIO33 (io), 38 GPIO34 (io), 39 GPIO35 (io), 40 GPIO36 (io), 41 GPIO37 (io), 42 GPIO38 (io), 43 MTCK / GPIO39 (io), 44 MTDO / GPIO40 (io), 46 MTDI / GPIO41 (io), 47 MTMS / GPIO42 (io), 48 U0TXD / GPIO43 (io), 49 U0RXD / GPIO44 (io), 50 GPIO45 (io), 52 XTAL_N, 53 XTAL_P, 55 GPIO46 (in), 56 CHIP_PU (in)
part B pins: 1 VDDA (power), 3 VDD3P3 (power), 4 VDD3P3 (power), 20 VDD3P3_RTC (power), 27 VDD3P3_RTC_IO (power), 30 VDD_SPI (power), 45 VDD3P3_CPU (power), 51 VDDA (power), 54 VDDA (power), 57 GND (power)

## ESP32-WROOM-32E(4MB)
designator U?
32-bit MCU & 2.4 GHz Wi-Fi & Bluetooth/Bluetooth LE; Manufacturer: Espressif Systems; PartNumber: ESP32-WROOM-32E(4MB); LCSC PartNumber: C701341; Parameter 2: *
footprint ESP32-WROOM-32
footprint ESP32-WROOM-32-shortpad (ESP32 module, with shorter solder pads)
pins: 1 GND (power) "Ground", 2 3V3 (power) "Power supply", 3 EN (in) "Chip-enable signal. Active high", 4 SENSOR_VP (in) "GPIO36, SENSOR_VP, ADC_H, ADC1_CH0, RTC_GPIO0", 5 SENSOR_VN (in) "GPIO39, SENSOR_VN, ADC1_CH3, ADC_H, RTC_GPIO3", 6 IO34 (in) "GPIO34, ADC1_CH6, RTC_GPIO4", 7 IO35 (in) "GPIO35, ADC1_CH7, RTC_GPIO5", 8 IO32 (io) "GPIO32, XTAL_32K_P (32.768 kHz crystal oscillator input), ADC1_CH4, TOUCH9, RTC_BPIO9", 9 IO33 (io) "GPIO33, XTAL_32K_N (32.768 kHz crystal oscillator output), ADC1_CH5,  TOUCH8, RTC_GPIO8", 10 IO25 (io) "GPIO25, DAC_1, ADC2_CH8, RTC_GPIO6, EMAC_RXD0", 11 IO26 (io) "GPIO26, DAC_2, ADC2_CH9, RTC_GPIO7, EMAC_RXD1", 12 IO27 (io) "GPIO27, ADC2_CH7, TOUCH7, RTC_GPIO17, EMAC_RX_DV", 13 IO14 (io) "GPIO14, ADC2_CH6, TOUCH6, RTC_GPIO16, MTMS, HSPICLK,  HS2_CLK, SD_CLK, EMAC_TXD2", 14 IO12 (io) "GPIO12, ADC2_CH5, TOUCH5, RTC_GPIO15, MTDI, HSPIQ,  HS2_DATA2, SD_DATA2, EMAC_TXD3", 15 GND (power) "Ground", 16 IO13 (io) "GPIO13, ADC2_CH4, TOUCH4, RTC_GPIO14, MTCK, HSPID,  HS2_DATA3, SD_DATA3, EMAC_RX_ER", 17 SHD/SD2* (io) "GPIO9, SD_DATA2, SPIHD, HS1_DATA2, U1RXD", 18 SWP/SD3* (io) "GPIO10, SD_DATA3, SPIWP, HS1_DATA3, U1TXD", 19 SCS/CMD* (io) "GPIO11, SD_CMD, SPICS0, HS1_CMD, U1RTS", 20 SCK/CLK* (io) "GPIO6, SD_CLK, SPICLK, HS1_CLK, U1CTS", 21 SDO/SD0* (io) "GPIO7, SD_DATA0, SPIQ, HS1_DATA0, U2RTS", 22 SDI/SD1* (io) "GPIO8, SD_DATA1, SPID, HS1_DATA1, U2CTS", 23 IO15 (io) "GPIO15, ADC2_CH3, TOUCH3, MTDO, HSPICS0, RTC_GPIO13,  HS2_CMD, SD_CMD, EMAC_RXD3", 24 IO2 (io) "GPIO2, ADC2_CH2, TOUCH2, RTC_GPIO12, HSPIWP, HS2_DATA0,  SD_DATA0", 25 IO0 (io) "GPIO0, ADC2_CH1, TOUCH1, RTC_GPIO11, CLK_OUT1,  EMAC_TX_CLK", 26 IO4 (io) "GPIO4, ADC2_CH0, TOUCH0, RTC_GPIO10, HSPIHD, HS2_DATA1,  SD_DATA1, EMAC_TX_ER", 27 IO16 (io) "GPIO16, HS1_DATA4, U2RXD, EMAC_CLK_OUT", 28 IO17 (io) "GPIO17, HS1_DATA5, U2TXD, EMAC_CLK_OUT_180", 29 IO5 (io) "GPIO5, VSPICS0, HS1_DATA6, EMAC_RX_CLK", 30 IO18 (io) "GPIO18, VSPICLK, HS1_DATA7", 31 IO19 (io) "GPIO19, VSPIQ, U0CTS, EMAC_TXD0", 32 NC, 33 IO21 (io) "GPIO21, VSPIHD, EMAC_TX_EN", 34 RXD0 (io) "GPIO3, U0RXD, CLK_OUT2", 35 TXD0 (io) "GPIO1, U0TXD, CLK_OUT3, EMAC_RXD2", 36 IO22 (io) "GPIO22, VSPIWP, U0RTS, EMAC_TXD1", 37 IO23 (io) "GPIO23, VSPID, HS1_STROBE", 38 GND (power) "Ground", 39 GND (power) "Ground"

## ESP32-WROOM-32E(16MB)
designator U?
32-bit MCU & 2.4 GHz Wi-Fi & Bluetooth/Bluetooth LE; Manufacturer: Espressif Systems; PartNumber: ESP32-WROOM-32E(16MB); LCSC PartNumber: C701343; Parameter 2: *
footprint ESP32-WROOM-32
footprint ESP32-WROOM-32-shortpad (ESP32 module, with shorter solder pads)
pins: 1 GND (power) "Ground", 2 3V3 (power) "Power supply", 3 EN (in) "Chip-enable signal. Active high", 4 SENSOR_VP (in) "GPIO36, SENSOR_VP, ADC_H, ADC1_CH0, RTC_GPIO0", 5 SENSOR_VN (in) "GPIO39, SENSOR_VN, ADC1_CH3, ADC_H, RTC_GPIO3", 6 IO34 (in) "GPIO34, ADC1_CH6, RTC_GPIO4", 7 IO35 (in) "GPIO35, ADC1_CH7, RTC_GPIO5", 8 IO32 (io) "GPIO32, XTAL_32K_P (32.768 kHz crystal oscillator input), ADC1_CH4, TOUCH9, RTC_BPIO9", 9 IO33 (io) "GPIO33, XTAL_32K_N (32.768 kHz crystal oscillator output), ADC1_CH5,  TOUCH8, RTC_GPIO8", 10 IO25 (io) "GPIO25, DAC_1, ADC2_CH8, RTC_GPIO6, EMAC_RXD0", 11 IO26 (io) "GPIO26, DAC_2, ADC2_CH9, RTC_GPIO7, EMAC_RXD1", 12 IO27 (io) "GPIO27, ADC2_CH7, TOUCH7, RTC_GPIO17, EMAC_RX_DV", 13 IO14 (io) "GPIO14, ADC2_CH6, TOUCH6, RTC_GPIO16, MTMS, HSPICLK,  HS2_CLK, SD_CLK, EMAC_TXD2", 14 IO12 (io) "GPIO12, ADC2_CH5, TOUCH5, RTC_GPIO15, MTDI, HSPIQ,  HS2_DATA2, SD_DATA2, EMAC_TXD3", 15 GND (power) "Ground", 16 IO13 (io) "GPIO13, ADC2_CH4, TOUCH4, RTC_GPIO14, MTCK, HSPID,  HS2_DATA3, SD_DATA3, EMAC_RX_ER", 17 SHD/SD2* (io) "GPIO9, SD_DATA2, SPIHD, HS1_DATA2, U1RXD", 18 SWP/SD3* (io) "GPIO10, SD_DATA3, SPIWP, HS1_DATA3, U1TXD", 19 SCS/CMD* (io) "GPIO11, SD_CMD, SPICS0, HS1_CMD, U1RTS", 20 SCK/CLK* (io) "GPIO6, SD_CLK, SPICLK, HS1_CLK, U1CTS", 21 SDO/SD0* (io) "GPIO7, SD_DATA0, SPIQ, HS1_DATA0, U2RTS", 22 SDI/SD1* (io) "GPIO8, SD_DATA1, SPID, HS1_DATA1, U2CTS", 23 IO15 (io) "GPIO15, ADC2_CH3, TOUCH3, MTDO, HSPICS0, RTC_GPIO13,  HS2_CMD, SD_CMD, EMAC_RXD3", 24 IO2 (io) "GPIO2, ADC2_CH2, TOUCH2, RTC_GPIO12, HSPIWP, HS2_DATA0,  SD_DATA0", 25 IO0 (io) "GPIO0, ADC2_CH1, TOUCH1, RTC_GPIO11, CLK_OUT1,  EMAC_TX_CLK", 26 IO4 (io) "GPIO4, ADC2_CH0, TOUCH0, RTC_GPIO10, HSPIHD, HS2_DATA1,  SD_DATA1, EMAC_TX_ER", 27 IO16 (io) "GPIO16, HS1_DATA4, U2RXD, EMAC_CLK_OUT", 28 IO17 (io) "GPIO17, HS1_DATA5, U2TXD, EMAC_CLK_OUT_180", 29 IO5 (io) "GPIO5, VSPICS0, HS1_DATA6, EMAC_RX_CLK", 30 IO18 (io) "GPIO18, VSPICLK, HS1_DATA7", 31 IO19 (io) "GPIO19, VSPIQ, U0CTS, EMAC_TXD0", 32 NC, 33 IO21 (io) "GPIO21, VSPIHD, EMAC_TX_EN", 34 RXD0 (io) "GPIO3, U0RXD, CLK_OUT2", 35 TXD0 (io) "GPIO1, U0TXD, CLK_OUT3, EMAC_RXD2", 36 IO22 (io) "GPIO22, VSPIWP, U0RTS, EMAC_TXD1", 37 IO23 (io) "GPIO23, VSPID, HS1_STROBE", 38 GND (power) "Ground", 39 GND (power) "Ground"

## ESP32-WROVER-E(16MB)
designator U?
ESP32 module with 8MB PSRAM, 16MB Flash, and external antenna; Manufacturer: Espressif Systems; PartNumber: ESP32-WROVER-E(16MB); LCSC PartNumber: C529589
footprint ESP32-WROVER
pins: 1 GND (power) "Ground", 2 3V3 (power) "Power supply", 3 EN (in) "Chip-enable signal. Active high", 4 SENSOR_VP (in) "GPIO36, SENSOR_VP, ADC_H, ADC1_CH0, RTC_GPIO0", 5 SENSOR_VN (in) "GPIO39, SENSOR_VN, ADC1_CH3, ADC_H, RTC_GPIO3", 6 IO34 (in) "GPIO34, ADC1_CH6, RTC_GPIO4", 7 IO35 (in) "GPIO35, ADC1_CH7, RTC_GPIO5", 8 IO32 (io) "GPIO32, XTAL_32K_P (32.768 kHz crystal oscillator input), ADC1_CH4, TOUCH9, RTC_BPIO9", 9 IO33 (io) "GPIO33, XTAL_32K_N (32.768 kHz crystal oscillator output), ADC1_CH5,  TOUCH8, RTC_GPIO8", 10 IO25 (io) "GPIO25, DAC_1, ADC2_CH8, RTC_GPIO6, EMAC_RXD0", 11 IO26 (io) "GPIO26, DAC_2, ADC2_CH9, RTC_GPIO7, EMAC_RXD1", 12 IO27 (io) "GPIO27, ADC2_CH7, TOUCH7, RTC_GPIO17, EMAC_RX_DV", 13 IO14 (io) "GPIO14, ADC2_CH6, TOUCH6, RTC_GPIO16, MTMS, HSPICLK,  HS2_CLK, SD_CLK, EMAC_TXD2", 14 IO12 (io) "GPIO12, ADC2_CH5, TOUCH5, RTC_GPIO15, MTDI, HSPIQ,  HS2_DATA2, SD_DATA2, EMAC_TXD3", 15 GND (power) "Ground", 16 IO13 (io) "GPIO13, ADC2_CH4, TOUCH4, RTC_GPIO14, MTCK, HSPID,  HS2_DATA3, SD_DATA3, EMAC_RX_ER", 17 SHD/SD2* (io) "GPIO9, SD_DATA2, SPIHD, HS1_DATA2, U1RXD", 18 SWP/SD3* (io) "GPIO10, SD_DATA3, SPIWP, HS1_DATA3, U1TXD", 19 SCS/CMD* (io) "GPIO11, SD_CMD, SPICS0, HS1_CMD, U1RTS", 20 SCK/CLK* (io) "GPIO6, SD_CLK, SPICLK, HS1_CLK, U1CTS", 21 SDO/SD0* (io) "GPIO7, SD_DATA0, SPIQ, HS1_DATA0, U2RTS", 22 SDI/SD1* (io) "GPIO8, SD_DATA1, SPID, HS1_DATA1, U2CTS", 23 IO15 (io) "GPIO15, ADC2_CH3, TOUCH3, MTDO, HSPICS0, RTC_GPIO13,  HS2_CMD, SD_CMD, EMAC_RXD3", 24 IO2 (io) "GPIO2, ADC2_CH2, TOUCH2, RTC_GPIO12, HSPIWP, HS2_DATA0,  SD_DATA0", 25 IO0 (io) "GPIO0, ADC2_CH1, TOUCH1, RTC_GPIO11, CLK_OUT1,  EMAC_TX_CLK", 26 IO4 (io) "GPIO4, ADC2_CH0, TOUCH0, RTC_GPIO10, HSPIHD, HS2_DATA1,  SD_DATA1, EMAC_TX_ER", 27 NC (io), 28 NC (io), 29 IO5 (io) "GPIO5, VSPICS0, HS1_DATA6, EMAC_RX_CLK", 30 IO18 (io) "GPIO18, VSPICLK, HS1_DATA7", 31 IO19 (io) "GPIO19, VSPIQ, U0CTS, EMAC_TXD0", 32 NC, 33 IO21 (io) "GPIO21, VSPIHD, EMAC_TX_EN", 34 RXD0 (io) "GPIO3, U0RXD, CLK_OUT2", 35 TXD0 (io) "GPIO1, U0TXD, CLK_OUT3, EMAC_RXD2", 36 IO22 (io) "GPIO22, VSPIWP, U0RTS, EMAC_TXD1", 37 IO23 (io) "GPIO23, VSPID, HS1_STROBE", 38 GND (power) "Ground", 39 GND (power) "Ground"

## ESP32-WROVER-IE(16MB)
designator U?
ESP32 module with 8MB PSRAM, 16MB Flash, and internal antenna; Manufacturer: Espressif Systems; PartNumber: ESP32-WROVER-IE(16MB); LCSC PartNumber: C701352
footprint ESP32-WROVER
pins: 1 GND (power) "Ground", 2 3V3 (power) "Power supply", 3 EN (in) "Chip-enable signal. Active high", 4 SENSOR_VP (in) "GPIO36, SENSOR_VP, ADC_H, ADC1_CH0, RTC_GPIO0", 5 SENSOR_VN (in) "GPIO39, SENSOR_VN, ADC1_CH3, ADC_H, RTC_GPIO3", 6 IO34 (in) "GPIO34, ADC1_CH6, RTC_GPIO4", 7 IO35 (in) "GPIO35, ADC1_CH7, RTC_GPIO5", 8 IO32 (io) "GPIO32, XTAL_32K_P (32.768 kHz crystal oscillator input), ADC1_CH4, TOUCH9, RTC_BPIO9", 9 IO33 (io) "GPIO33, XTAL_32K_N (32.768 kHz crystal oscillator output), ADC1_CH5,  TOUCH8, RTC_GPIO8", 10 IO25 (io) "GPIO25, DAC_1, ADC2_CH8, RTC_GPIO6, EMAC_RXD0", 11 IO26 (io) "GPIO26, DAC_2, ADC2_CH9, RTC_GPIO7, EMAC_RXD1", 12 IO27 (io) "GPIO27, ADC2_CH7, TOUCH7, RTC_GPIO17, EMAC_RX_DV", 13 IO14 (io) "GPIO14, ADC2_CH6, TOUCH6, RTC_GPIO16, MTMS, HSPICLK,  HS2_CLK, SD_CLK, EMAC_TXD2", 14 IO12 (io) "GPIO12, ADC2_CH5, TOUCH5, RTC_GPIO15, MTDI, HSPIQ,  HS2_DATA2, SD_DATA2, EMAC_TXD3", 15 GND (power) "Ground", 16 IO13 (io) "GPIO13, ADC2_CH4, TOUCH4, RTC_GPIO14, MTCK, HSPID,  HS2_DATA3, SD_DATA3, EMAC_RX_ER", 17 SHD/SD2* (io) "GPIO9, SD_DATA2, SPIHD, HS1_DATA2, U1RXD", 18 SWP/SD3* (io) "GPIO10, SD_DATA3, SPIWP, HS1_DATA3, U1TXD", 19 SCS/CMD* (io) "GPIO11, SD_CMD, SPICS0, HS1_CMD, U1RTS", 20 SCK/CLK* (io) "GPIO6, SD_CLK, SPICLK, HS1_CLK, U1CTS", 21 SDO/SD0* (io) "GPIO7, SD_DATA0, SPIQ, HS1_DATA0, U2RTS", 22 SDI/SD1* (io) "GPIO8, SD_DATA1, SPID, HS1_DATA1, U2CTS", 23 IO15 (io) "GPIO15, ADC2_CH3, TOUCH3, MTDO, HSPICS0, RTC_GPIO13,  HS2_CMD, SD_CMD, EMAC_RXD3", 24 IO2 (io) "GPIO2, ADC2_CH2, TOUCH2, RTC_GPIO12, HSPIWP, HS2_DATA0,  SD_DATA0", 25 IO0 (io) "GPIO0, ADC2_CH1, TOUCH1, RTC_GPIO11, CLK_OUT1,  EMAC_TX_CLK", 26 IO4 (io) "GPIO4, ADC2_CH0, TOUCH0, RTC_GPIO10, HSPIHD, HS2_DATA1,  SD_DATA1, EMAC_TX_ER", 27 NC (io), 28 NC (io), 29 IO5 (io) "GPIO5, VSPICS0, HS1_DATA6, EMAC_RX_CLK", 30 IO18 (io) "GPIO18, VSPICLK, HS1_DATA7", 31 IO19 (io) "GPIO19, VSPIQ, U0CTS, EMAC_TXD0", 32 NC, 33 IO21 (io) "GPIO21, VSPIHD, EMAC_TX_EN", 34 RXD0 (io) "GPIO3, U0RXD, CLK_OUT2", 35 TXD0 (io) "GPIO1, U0TXD, CLK_OUT3, EMAC_RXD2", 36 IO22 (io) "GPIO22, VSPIWP, U0RTS, EMAC_TXD1", 37 IO23 (io) "GPIO23, VSPID, HS1_STROBE", 38 GND (power) "Ground", 39 GND (power) "Ground"

## FC0V474ZFTBR24
designator C?
Surface Mount EDLC Supercapactior, .47F, 3.5V; PartNumber: FC0V474ZFTBR24; Manufacturer: KEMET
footprint FC0V474ZFTBR24
footprint FC0V474ZFTBR24-L
footprint FC0V474ZFTBR24-M
pins: 1, 2

## FC-B1010RGBT-HG
designator LED?
RGB 610~630nmRed,515~540nmGreen,460~480Blue 1010 Light Emitting Diodes (LED); Manufacturer: Foshan NationStar Optoelectronics; PartNumber: FC-B1010RGBT-HG; LCSC PartNumber: C158099
footprint FC-B1010RGBT-HG
pins: 1, 2, 3, 4

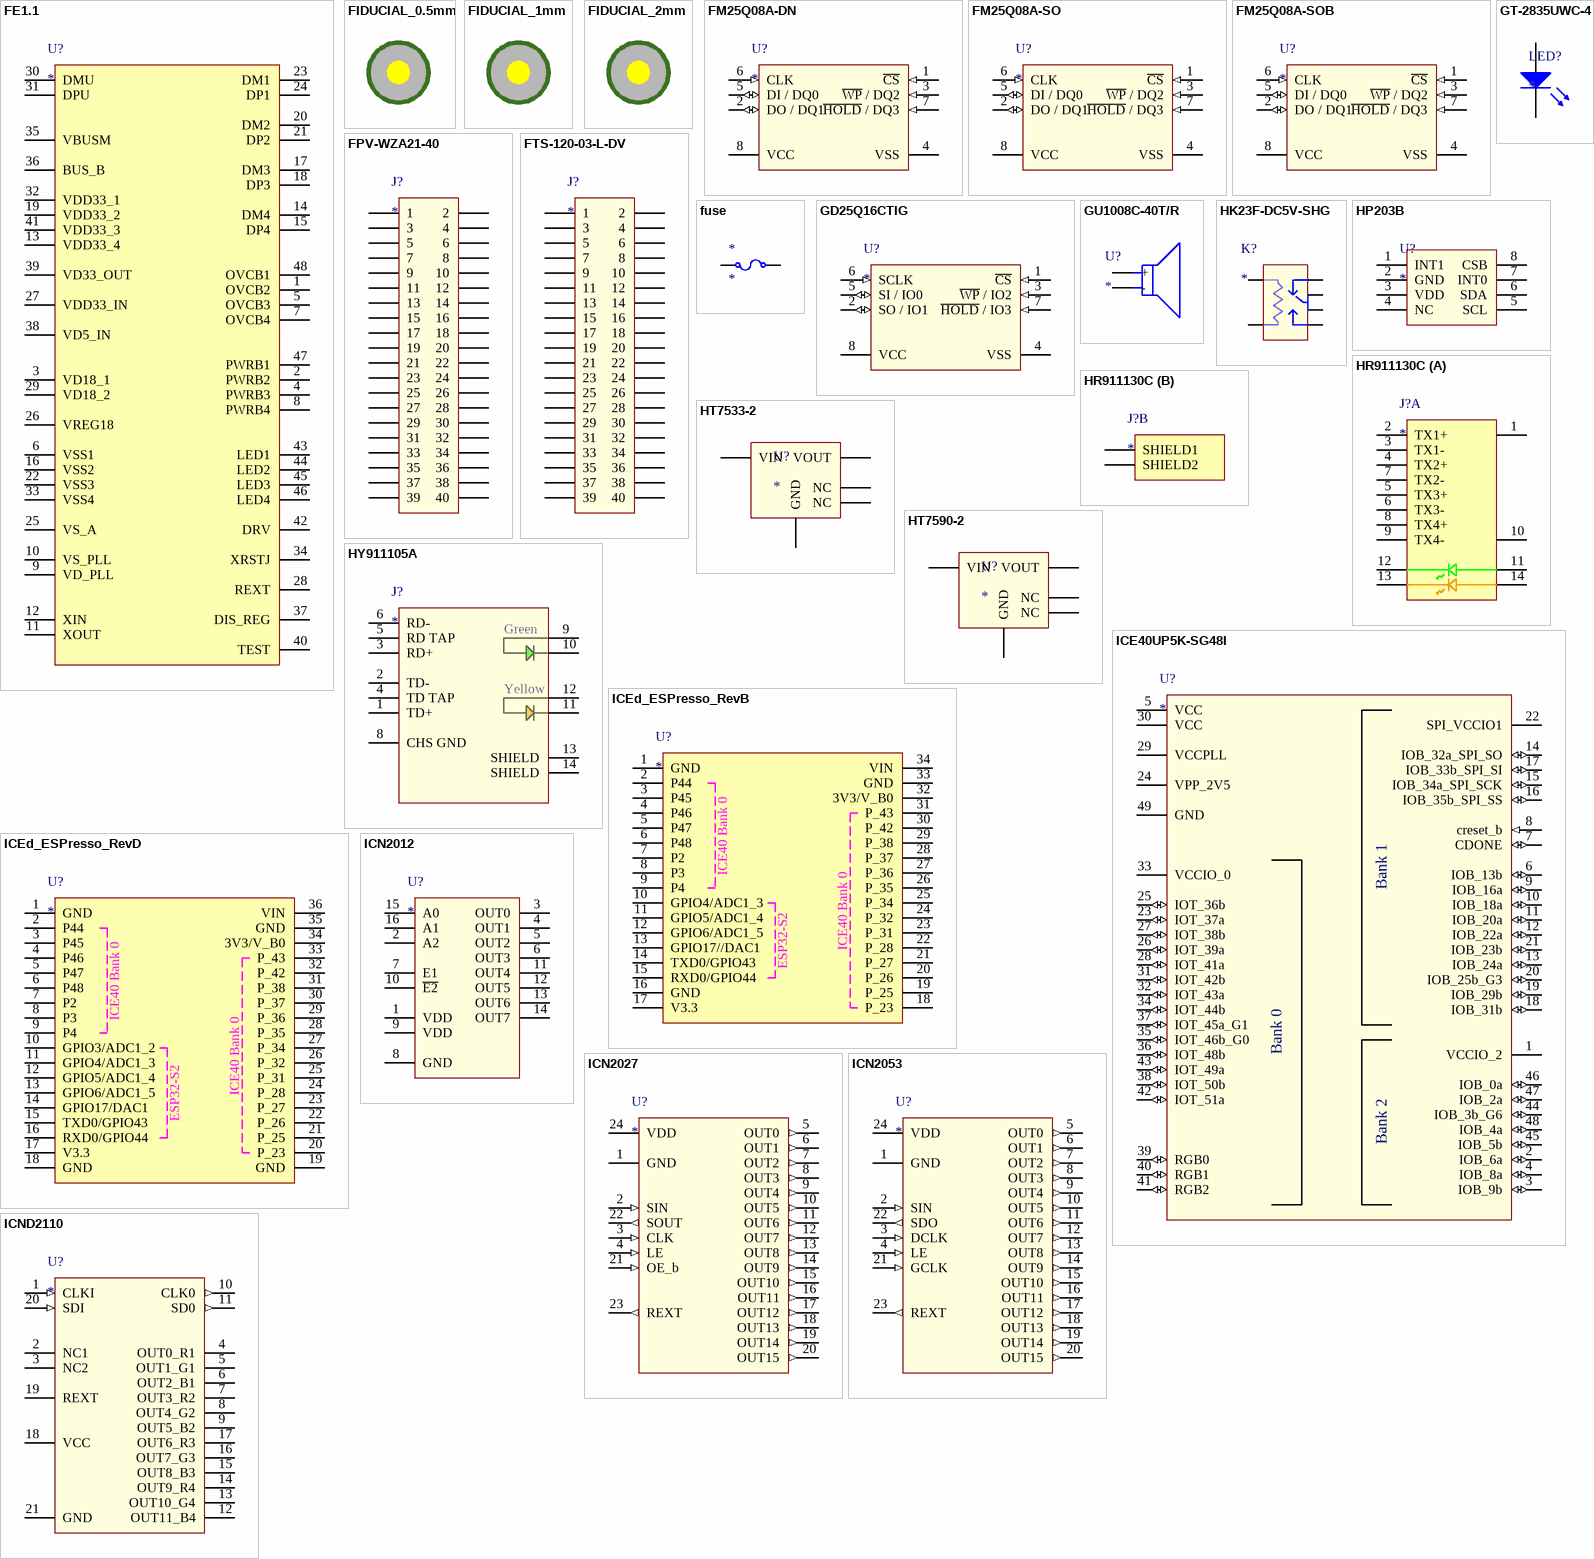
[diagram p3: symbols FE1.1 to ICND2110]

## FE1.1
designator U?
USB 2.0 HIGH SPEED 4-PORT HUB CONTROLLER; Manufacturer: Terminus Tech; PartNumber: FE1.1; LCSC PartNumber: C28958
footprint TSQFP50P900X900X160-48N (TSQFP, 48-Leads, Body 7.00x7.00mm, Pitch 0.50mm, IPC Medium Density)
pins: 1 OVCB2, 2 PWRB2, 3 VD18_1, 4 PWRB3, 5 OVCB3, 6 VSS1, 7 OVCB4, 8 PWRB4, 9 VD_PLL, 10 VS_PLL, 11 XOUT, 12 XIN, 13 VDD33_4, 14 DM4, 15 DP4, 16 VSS2, 17 DM3, 18 DP3, 19 VDD33_2, 20 DM2, 21 DP2, 22 VSS3, 23 DM1, 24 DP1, 25 VS_A, 26 VREG18, 27 VDD33_IN, 28 REXT, 29 VD18_2, 30 DMU, 31 DPU, 32 VDD33_1, 33 VSS4, 34 XRSTJ, 35 VBUSM, 36 BUS_B, 37 DIS_REG, 38 VD5_IN, 39 VD33_OUT, 40 TEST, 41 VDD33_3, 42 DRV, 43 LED1, 44 LED2, 45 LED3, 46 LED4, 47 PWRB1, 48 OVCB1

## FIDUCIAL_0.5mm
designator FD?  (value not drawn)  (no BOM)
0.5mm fiducial
footprint fiducial_0.5mm

## FIDUCIAL_1mm
designator FD?  (value not drawn)  (no BOM)
1mm fiducial
footprint fiducial_1mm

## FIDUCIAL_2mm
designator FD?  (value not drawn)  (no BOM)
2mm fiducial
footprint fiducial_2mm

## FM25Q08A-DN
designator U?
8M-BIT SERIAL FLASH MEMORY, 208mil width; Manufacturer: Shanghai Fudan Microelectronics Group Company Limited; PartNumber: FM25Q08A-SOB
footprint SON50P300X80_HS-9N (SON, 8-Leads, Body 2.00x3.00mm, Pitch 0.50mm, Thermal Pad 1.50x1.49mm, IPC Medium Density)
pins: 1 ~{CS} (in) "Chip Select Input", 2 DO / DQ1 (io) "Data Input / Output", 3 ~{WP} / DQ2 (in) "Write Protect Input", 4 VSS (power) "Ground", 5 DI / DQ0 (io) "Data Input / Output", 6 CLK (in) "Serial Clock Input", 7 ~{HOLD} / DQ3 (in) "Hold Input", 8 VCC (power) "Power Supply"

## FM25Q08A-SO
designator U?
8M-BIT SERIAL FLASH MEMORY, 150mil width; Manufacturer: Shanghai Fudan Microelectronics Group Company Limited; PartNumber: FM25Q08A-SO
footprint SOP127P600X175-8N (SOP, 8-Leads, Body 4.93x3.90mm, Pitch 1.27mm, IPC Medium Density)
pins: 1 ~{CS} (in) "Chip Select Input", 2 DO / DQ1 (io) "Data Input / Output", 3 ~{WP} / DQ2 (in) "Write Protect Input", 4 VSS (power) "Ground", 5 DI / DQ0 (io) "Data Input / Output", 6 CLK (in) "Serial Clock Input", 7 ~{HOLD} / DQ3 (in) "Hold Input", 8 VCC (power) "Power Supply"

## FM25Q08A-SOB
designator U?
8M-BIT SERIAL FLASH MEMORY, 208mil width; Manufacturer: Shanghai Fudan Microelectronics Group Company Limited; PartNumber: FM25Q08A-SOB
footprint SOP127P790X210-8N (SOP, 8-Leads, Body 5.23x5.28mm, Pitch 1.27mm, IPC Medium Density)
pins: 1 ~{CS} (in) "Chip Select Input", 2 DO / DQ1 (io) "Data Input / Output", 3 ~{WP} / DQ2 (in) "Write Protect Input", 4 VSS (power) "Ground", 5 DI / DQ0 (io) "Data Input / Output", 6 CLK (in) "Serial Clock Input", 7 ~{HOLD} / DQ3 (in) "Hold Input", 8 VCC (power) "Power Supply"

## FPV-WZA21-40
designator J?
FPC/FFC 0.5mm PITCH ZIF SMD TYPE CONNECTOR; Manufacturer: Morethanall (煜倫); PartNumber: FPV-WSA21-40
footprint FPV-WZA21-40 (FPC/FFC 0.5mm PITCH ZIF SMD TYPE CONNECTOR)
pins: 1, 2, 3, 4, 5, 6, 7, 8, 9, 10, 11, 12, 13, 14, 15, 16, 17, 18, 19, 20, 21, 22, 23, 24, 25, 26, 27, 28, 29, 30, 31, 32, 33, 34, 35, 36, 37, 38, 39, 40

## FTS-120-03-L-DV
designator J?
CONN HEADER 40POS DUAL .05" SMD; PartNumber: FTS-120-03-L-DV; Manufacturer: Samtec
footprint FTS-120-03-L-DV (CONN HEADER 40POS DUAL .05" SMD)
pins: 1, 2, 3, 4, 5, 6, 7, 8, 9, 10, 11, 12, 13, 14, 15, 16, 17, 18, 19, 20, 21, 22, 23, 24, 25, 26, 27, 28, 29, 30, 31, 32, 33, 34, 35, 36, 37, 38, 39, 40

## fuse
designator *
footprint fuse_holder
pins: 1, 2

## GD25Q16CTIG
designator U?
16M-bit Serial Flash, 256 Bytes per programmable page, standard, dual, quad SPI; Manufacturer: Gigadevice; PartNumber: GD25Q16CTIG
footprint SOP127P600X175-8N-2 (SOP, 8-Leads, Body 4.90x3.85mm, Pitch 1.27mm, IPC Medium Density)
pins: 1 ~{CS} (in) "Chip Select Input", 2 SO / IO1 (io) "Data Input / Output", 3 ~{WP} / IO2 (in) "Write Protect Input", 4 VSS (power) "Ground", 5 SI / IO0 (io) "Data Input / Output", 6 SCLK (in) "Serial Clock Input", 7 ~{HOLD} / IO3 (in) "Hold Input", 8 VCC (power) "Power Supply"

## GT-2835UWC-4
designator LED?
2835 Plue White LED; Manufacturer: Unknown/Generic; PartNumber: GT-2835UWC-4
footprint GT-2835UWC-4 (2835 Plue White LED)
pins: 1, 2

## GU1008C-40T/R
designator U?
40KHz ultrasonic transducer, open top; Manufacturer: INGHAI; PartNumber: GU1008C-40T/R
footprint GU1008C-40T/R (40KHz ultrasonic transducer)
footprint GU1008C-40T/R - slots (40KHz ultrasonic transducer)
pins: 1 +, 2 -

## HK23F-DC5V-SHG
designator K?
General Purpose Non Latching 5VDC SPDT Through Hole Relays; Manufacturer: NINGBO BOLE; PartNumber: HK23F-DC5V-SHG; LCSC PartNumber: C18590
footprint HK23F-DC5V-SHG (SUBMINIATURE HIGH POWER RELAY)
pins: 1 NO, 2 C+, 3 SRC1, 4 SRC2, 5 C-, 6 NC

## HP203B
designator U?
PRECISION BAROMETER AND ALTIMETER SENSOR; Manufacturer: HopeRF; PartNumber: HP203B
footprint HP203B (PRECISION BAROMETER AND ALTIMETER SENSOR)
pins: 1 INT1, 2 GND (power), 3 VDD (power), 4 NC, 5 SCL, 6 SDA, 7 INT0, 8 CSB

## HR911130C
designator J?
CONN JACK 1PORT 1000 BASE-T PCB; Manufacturer: Pulse Electronics Network; PartNumber: JXD0-0015NL; Digikey PartNumber: 553-3736-ND
footprint HR911130C
part A pins: 1 P1, 2 TX1+, 3 TX1-, 4 TX2+, 5 TX3+, 6 TX3-, 7 TX2-, 8 TX4+, 9 TX4-, 10 P10, 11 P11, 12 P12, 13 P13, 14 P14
part B pins: SHIELD1, SHIELD2

## HT7533-2
designator U?
3.3V 100mA TinyPower LDO; Manufacturer: Holtek; PartNumber: HT7533-2
footprint SOT95P280X145-5N (SOT23, 5-Leads, Body 2.90x2.80mm, Pitch 0.95mm, IPC Medium Density)
pins: 1 GND, 2 VIN, 3 VOUT, 4 NC, 5 NC

## HT7590-2
designator U?
9V 100mA TinyPower LDO; Manufacturer: Holtek; PartNumber: HT7590-2
footprint SOT95P280X145-5N (SOT23, 5-Leads, Body 2.90x2.80mm, Pitch 0.95mm, IPC Medium Density)
pins: 1 GND, 2 VIN, 3 VOUT, 4 NC, 5 NC

## HY911105A
designator J?
Single Port RJ45 Connector with Integrated Magnetics and LED for 10/100Base-T NIC Applications; Manufacturer: HanRun; PartNumber: HY911105A; ComponentLink2Description: Datasheet; ComponentLink2URL: HY911105A.pdf
footprint HY911105A (Single Port RJ45 Connector with Integrated Magnetics and LED for 10/100Base-T NIC Applications)
pins: 1 TD+, 2 TD-, 3 RD+, 4 TD TAP, 5 RD TAP, 6 RD-, 8 CHS GND, 9 Green Anode, 10 Green Cathode, 11 Yellow Cathode, 12 Yellow Anode, 13 SHIELD, 14 SHIELD
text: Green; Yellow